# Altium schematic symbol library Integrated Circuits.SchLib: 156 symbols (part 2 of 3)
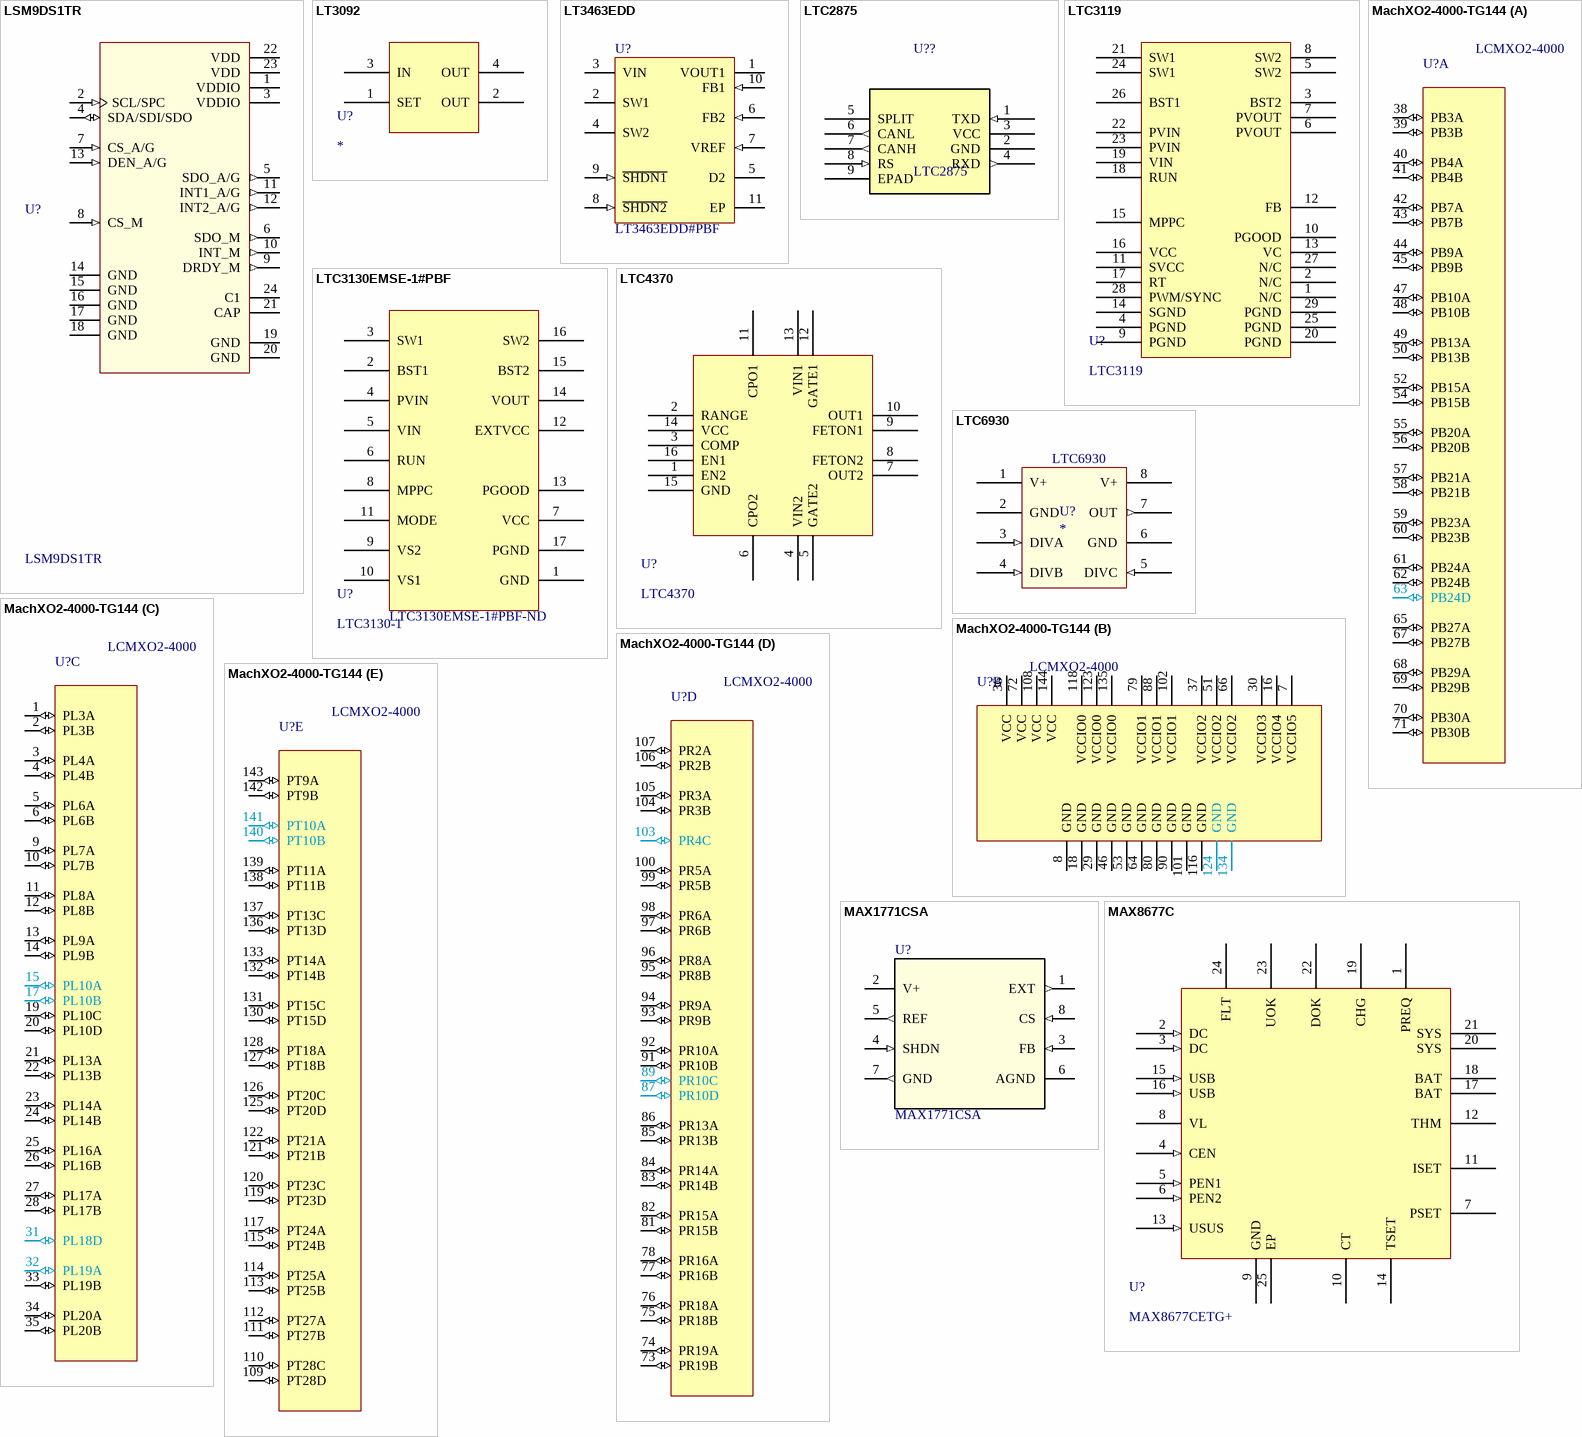
[diagram p16: symbols LSM9DS1TR to MAX8677C]

## MachXO2-4000-TG144
designator U?, comment LCMXO2-4000
MANF_PN: LCMXO2-4000HC-4TG144C; MANF: Lattice Semiconductor Corporation; VENDOR: DigiKey; VENDOR_PN: 220-1460-ND
footprint TQFP144 (LatticeMXO2 TQFP144)
part A pins: 38 PB3A (io), 39 PB3B (io), 40 PB4A (io), 41 PB4B (io), 42 PB7A (io), 43 PB7B (io), 44 PB9A (io), 45 PB9B (io), 47 PB10A (io), 48 PB10B (io), 49 PB13A (io), 50 PB13B (io), 52 PB15A (io), 54 PB15B (io), 55 PB20A (io), 56 PB20B (io), 57 PB21A (io), 58 PB21B (io), 59 PB23A (io), 60 PB23B (io), 61 PB24A (io), 62 PB24B (io), 63 PB24D (io), 65 PB27A (io), 67 PB27B (io), 68 PB29A (io), 69 PB29B (io), 70 PB30A (io), 71 PB30B (io)
part B pins: 7 VCCIO5 (power), 8 GND (power), 16 VCCIO4 (power), 18 GND (power), 29 GND (power), 30 VCCIO3 (power), 36 VCC (power), 37 VCCIO2 (power), 46 GND (power), 51 VCCIO2 (power), 53 GND (power), 64 GND (power), 66 VCCIO2 (power), 72 VCC (power), 79 VCCIO1 (power), 80 GND (power), 88 VCCIO1 (power), 90 GND (power), 101 GND (power), 102 VCCIO1 (power), 108 VCC (power), 116 GND (power), 118 VCCIO0 (power), 123 VCCIO0 (power), 124 GND (power), 134 GND (power), 135 VCCIO0 (power), 144 VCC (power)
part C pins: 1 PL3A (io), 2 PL3B (io), 3 PL4A (io), 4 PL4B (io), 5 PL6A (io), 6 PL6B (io), 9 PL7A (io), 10 PL7B (io), 11 PL8A (io), 12 PL8B (io), 13 PL9A (io), 14 PL9B (io), 15 PL10A (io), 17 PL10B (io), 19 PL10C (io), 20 PL10D (io), 21 PL13A (io), 22 PL13B (io), 23 PL14A (io), 24 PL14B (io), 25 PL16A (io), 26 PL16B (io), 27 PL17A (io), 28 PL17B (io), 31 PL18D (io), 32 PL19A (io), 33 PL19B (io), 34 PL20A (io), 35 PL20B (io)
part D pins: 73 PR19B (io), 74 PR19A (io), 75 PR18B (io), 76 PR18A (io), 77 PR16B (io), 78 PR16A (io), 81 PR15B (io), 82 PR15A (io), 83 PR14B (io), 84 PR14A (io), 85 PR13B (io), 86 PR13A (io), 87 PR10D (io), 89 PR10C (io), 91 PR10B (io), 92 PR10A (io), 93 PR9B (io), 94 PR9A (io), 95 PR8B (io), 96 PR8A (io), 97 PR6B (io), 98 PR6A (io), 99 PR5B (io), 100 PR5A (io), 103 PR4C (io), 104 PR3B (io), 105 PR3A (io), 106 PR2B (io), 107 PR2A (io)
part E pins: 109 PT28D (io), 110 PT28C (io), 111 PT27B (io), 112 PT27A (io), 113 PT25B (io), 114 PT25A (io), 115 PT24B (io), 117 PT24A (io), 119 PT23D (io), 120 PT23C (io), 121 PT21B (io), 122 PT21A (io), 125 PT20D (io), 126 PT20C (io), 127 PT18B (io), 128 PT18A (io), 130 PT15D (io), 131 PT15C (io), 132 PT14B (io), 133 PT14A (io), 136 PT13D (io), 137 PT13C (io), 138 PT11B (io), 139 PT11A (io), 140 PT10B (io), 141 PT10A (io), 142 PT9B (io), 143 PT9A (io)

## MAX1771CSA
designator U?
Boost, Buck-Boost Regulator Positive Output Step-Up, Step-Up/Step-Down - DC-DC Controller IC 8-SOIC; Supplier 1: Digi-Key; Supplier 2: Mouser; Supplier Part Number 1: MAX1771CSA+-ND; Supplier Part Number 2: 700-MAX1771CSA; Supplier Part Number 3: C407903; Supplier 3: LCSC
footprint SOIC-8N - MAX1771 (SOIC, 8-Leads, Body 4.90x3.90mm, Pitch 1.27mm, IPC Medium Density)
pins: 1 EXT (out), 2 V+ (power), 3 FB (in), 4 SHDN (in), 5 REF (out), 6 AGND (power), 7 GND (out), 8 CS (in)

## MAX8677C
designator U?, comment MAX8677CETG+
IC USB/AC ADP CHARGER 24-TQFN; Supplier 1: Digi-Key; Supplier Part Number 1: MAX8677CETG+-ND
footprint T2444-4 (QFN, 24-Leads, Body 4.00x4.00mm, Pitch 0.50mm, Thermal Pad 2.54x2.54mm, IPC Medium Density)
pins: 1 PREQ, 2 DC (in), 3 DC (in), 4 CEN (in), 5 PEN1 (in), 6 PEN2 (in), 7 PSET, 8 VL (power), 9 GND, 10 CT, 11 ISET, 12 THM, 13 USUS (in), 14 TSET, 15 USB (in), 16 USB (in), 17 BAT, 18 BAT, 19 CHG, 20 SYS, 21 SYS, 22 DOK, 23 UOK, 24 FLT, 25 EP

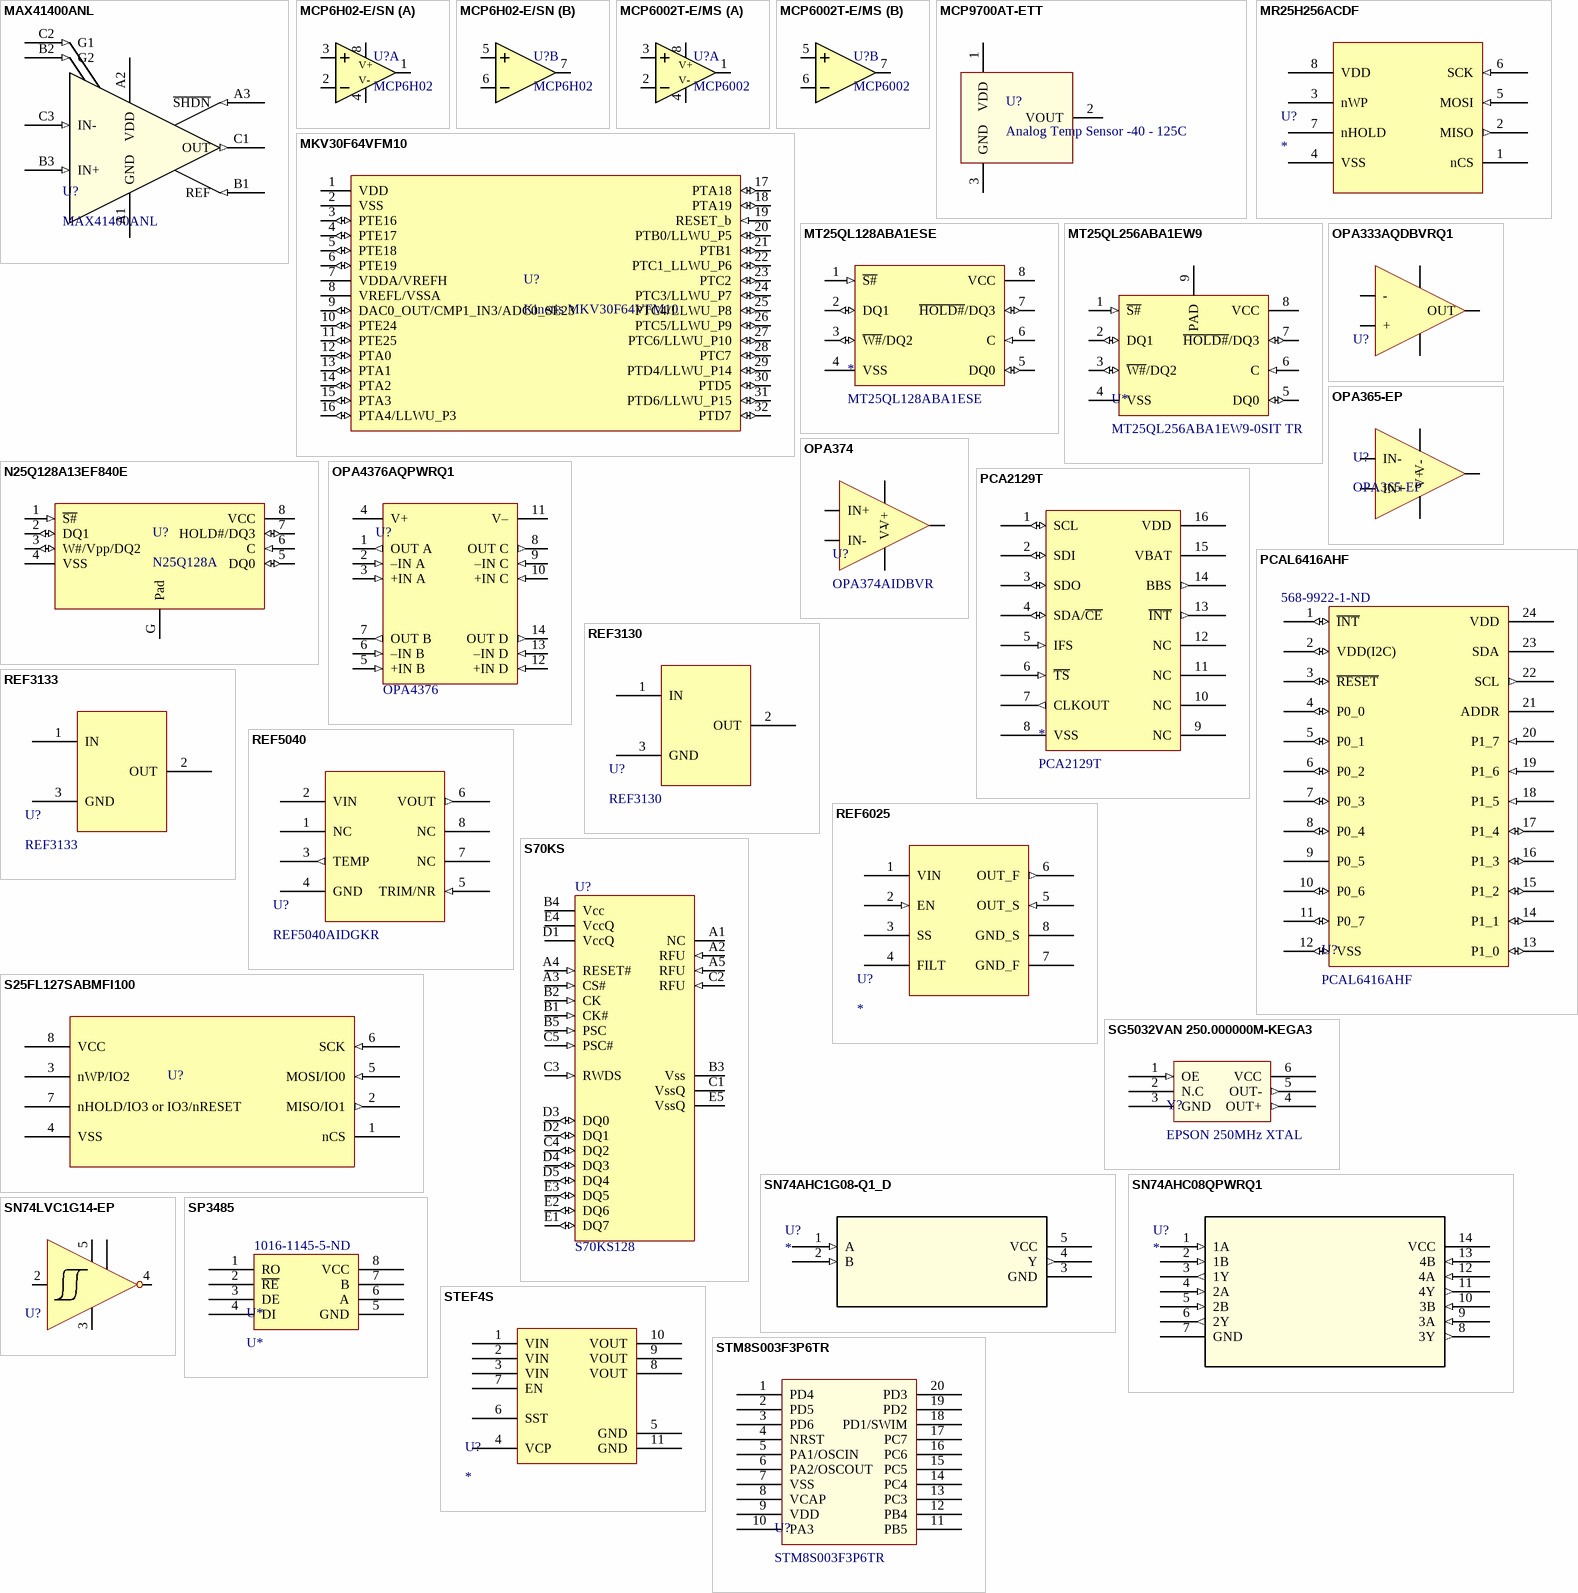
[diagram p7: symbols MAX41400ANL to STM8S003F3P6TR]

## MAX41400ANL
designator U?
Instrumentation Amplifier 1 Circuit Rail-to-Rail 9-WLP (1.26x1.23); Supplier 1: Digi-Key; Supplier 2: Mouser; Supplier Part Number 1: 175-MAX41400ANL+-ND; Supplier Part Number 2: 700-MAX41400ANL+
footprint WLP-9 BGA 0.4mm (9 PIN WLP BGA MAXIM41400ANL)
pins: A1 GND (power), A2 VDD (power), A3 ~{SHDN} (in), B1 REF (in), B2 G2 (in), B3 IN+ (in), C1 OUT (out), C2 G1 (in), C3 IN- (in)

## MCP6H02-E/SN
designator U?, comment MCP6H02
IC OPAMP DUAL 1.2MHZ RRO 8SOIC; Manufacturer: Microchip; Manufacturer Part Number: MCP6H02-E/SN; Supplier 1: Digi-Key; Supplier Part Number 1: MCP6H02-E/SN-ND
footprint SOIC127P600X175-8N (SOIC, 8-Leads, Body 4.90x3.90mm, Pitch 1.27mm, IPC Medium Density)
part A pins: 1 VOUTA, 2 VINA-, 3 VINA+, 4 VSS (power), 8 VDD (power)
part B pins: 5 VINB+, 6 VINB-, 7 VOUTB
part A text: V+; V-

## MCP6002T-E/MS
designator U?, comment MCP6002
IC OPAMP DUAL 1MHZ RRO 8MSOP; Manufacturer: Microchip; Manufacturer Part Number: MCP6002T-E/MS; Supplier 1: Digi-Key; Supplier Part Number 1: MCP6002T-E/MSCT-ND
part A pins: 1 VOUTA, 2 VINA-, 3 VINA+, 4 VSS (power), 8 VDD (power)
part B pins: 5 VINB+, 6 VINB-, 7 VOUTB
part A text: V+; V-

## MCP9700AT-ETT
designator U?, comment Analog Temp Sensor -40 - 125C
Temperature Sensor Analog, Local -40°C ~ 125°C 10mV/°C SOT-23-3; Supplier 1: Digi-Key; Supplier 2: Mouser; Supplier 3: LCSC; Supplier Part Number 1: MCP9700AT-E/TTCT-ND; Supplier Part Number 2: 579-MCP9700AT-E/TT; Supplier Part Number 3: C127949
footprint SOT23 (SOT23, 3-Leads, Body 2.92x2.37mm, Pitch 0.95mm, IPC Medium Density)
pins: 1 VDD, 2 VOUT, 3 GND

## MKV30F64VFM10
designator U?, comment Kinetis MKV30F64VFM10
MCU, ARM Cortex M4, 100MHz, 16 kB RAM, 64 kB Flash, I2C, SPI, 2 x UART, 2 x 16-bit 12ch ADC,  12-bit DAC; Manufacturer: Freescale; Manufacturer Part #: MKV30F64VFM10; Product Line: Kinetis; Core: ARM Cortex M4; Supplier 1: Digi-Key; Supplier Part Number 1: MKV30F64VFM10-ND
footprint QFN32-0.5MM-FREESCALE-DWG-98ARE10566D (QFN, 32-Leads, Body 5.00x5.00mm, Pitch 0.50mm, Thermal Pad 3.65x3.65mm, IPC Low Density)
pins: 1 VDD (power), 2 VSS (power), 3 PTE16 (io), 4 PTE17 (io), 5 PTE18 (io), 6 PTE19 (io), 7 VDDA/VREFH (power), 8 VREFL/VSSA (power), 9 DAC0_OUT/CMP1_IN3/ADC0_SE23 (io), 10 PTE24 (io), 11 PTE25 (io), 12 PTA0 (io), 13 PTA1 (io), 14 PTA2 (io), 15 PTA3 (io), 16 PTA4/LLWU_P3 (io), 17 PTA18 (io), 18 PTA19 (io), 19 RESET_b (in), 20 PTB0/LLWU_P5 (io), 21 PTB1 (io), 22 PTC1_LLWU_P6 (io), 23 PTC2 (io), 24 PTC3/LLWU_P7 (io), 25 PTC4/LLWU_P8 (io), 26 PTC5/LLWU_P9 (io), 27 PTC6/LLWU_P10 (io), 28 PTC7 (io), 29 PTD4/LLWU_P14 (io), 30 PTD5 (io), 31 PTD6/LLWU_P15 (io), 32 PTD7 (io)

## MR25H256ACDF
designator U?
IC RAM 256K SPI 40MHZ 8DFN; Manufacturer: Everspin; Manufacturer Part Number: MR25H256ACDF; Memory Type: Non-Volatile,RAM; Memory Size: 256Kb; Supplier 1: Digi-Key; Supplier Part Number 1: 819-1064-ND; Stock 1: 4283; Pricing 1: 1=5.06, 10=4.589, 25=4.4896, 50=4.4646, 100=4.0039, 250=3.989, 500=3.84208, 1000=3.65283 (USD); Mount: Surface Mount; Case/Package: DFN; Min Operating Temperature: -40°C; Max Operating Temperature: 85°C; Packaging: Tray; Frequency: 40MHz; ComponentLink1URL: https://www.everspin.com/file/156638/download?src-supplier=Digi-Key; ComponentLink1Description: https://www.everspin.com/file/156638/download?src-supplier=Digi-Key
footprint PSON127P600X90_HS-9N (PSON, 8-Leads, Body 5.00x6.00mm, Pitch 1.27mm, Thermal Pad 2.00x2.00mm, IPC Medium Density)
pins: 1 nCS (power), 2 MISO (out), 3 nWP, 4 VSS, 5 MOSI (in), 6 SCK (in), 7 nHOLD, 8 VDD

## MT25QL128ABA1ESE
designator *
SPI Flash, 128Mb, 3V; Supplier 1: Mouser; Supplier Part Number 1: 340-224871-TRAY
footprint SOP127P790X216-8N (SOP, 8-Leads, Body 5.29x5.29mm, Pitch 1.27mm, IPC Medium Density)
pins: 1 ~{S#} (in), 2 DQ1 (io), 3 ~{W#}/DQ2 (io), 4 VSS (power), 5 DQ0 (io), 6 C (in), 7 ~{HOLD#}/DQ3 (io), 8 VCC (power)

## MT25QL256ABA1EW9
designator U*, comment MT25QL256ABA1EW9-0SIT TR
IC FLASH 256M SPI 133MHZ 8WPDFN; Supplier 1: Digi-Key; Supplier Part Number 1: 557-1984-1-ND
footprint W-PDFN-8-127P800X600X80_HS-9N (QFN, 8-Leads, Body 8.00x6.00mm, Pitch 1.27mm, Thermal Pad 3.40x4.30mm, IPC Medium Density)
pins: 1 ~{S#} (in), 2 DQ1 (io), 3 ~{W#}/DQ2 (io), 4 VSS (power), 5 DQ0 (io), 6 C (in), 7 ~{HOLD#}/DQ3 (io), 8 VCC (power), 9 PAD

## N25Q128A13EF840E
designator U?, comment N25Q128A
SPI Flash, 128Mb, 3V; Supplier 1: Digi-Key; Supplier Part Number 1: 557-1561-ND
footprint Micron F8 MLP8 (QFN, 8-Leads, Body 8.00x6.00mm, Pitch 1.27mm, Thermal Pad 5.16x4.80mm, IPC High Density)
pins: 1 ~{S#} (in), 2 DQ1 (io), 3 W#/Vpp/DQ2 (io), 4 VSS (power), 5 DQ0 (io), 6 C (in), 7 HOLD#/DQ3 (io), 8 VCC (power), G Pad (power)

## OPA333AQDBVRQ1
designator U?, comment OPA333-Q1  (value not drawn)
IC OPAMP CHOPPER 350KHZ SOT23-5; Supplier 1: Digi-Key; Supplier Part Number 1: 296-36700-1-ND
footprint DBV0005A (SOT23, 5-Leads, Body 2.90x2.80mm, Pitch 0.95mm, IPC Medium Density)
pins: 1 OUT, 2 V-, 3 +, 4 -, 5 V+

## OPA365-EP
designator U?
IC OPAMP GP 50MHZ RRO SOT23-5; Supplier 1: Digi-Key; Supplier Part Number 1: 296-29461-1-ND
footprint DBV0005A (SOT23, 5-Leads, Body 2.90x2.80mm, Pitch 0.95mm, IPC Medium Density)
pins: 1 VOUT, 2 V-, 3 IN+, 4 IN-, 5 V+

## OPA374
designator U?, comment OPA374AIDBVR
General Purpose 1 2.3V ~ 5.5V, ±1.15V ~ 2.75V 585uA 6.5MHz 5 V/us SOT-23-5 Precision OpAmps RoHS; Supplier 1: Digi-Key; Supplier 2: Mouser; Supplier 3: LCSC; Supplier Part Number 1: 296-39129-1-ND; Supplier Part Number 2: 595-OPA374AIDBVR; Supplier Part Number 3: C111859
footprint DBV0005A (SOT23, 5-Leads, Body 2.90x2.80mm, Pitch 0.95mm, IPC Medium Density)
pins: 1 VOUT, 2 V-, 3 IN+, 4 IN-, 5 V+

## OPA4376AQPWRQ1
designator U?  Manufacturer Part No: OPA4376  (hidden comment: *)
OPAx376-Q1 Low-Noise, Low Quiescent Current, Precision Operational Amplifier 5.5MHZ, 5uV I/O OFFSET; Supplier 1: Digi-Key; Supplier Part Number 1: 296-46973-1-ND
footprint TSSOP-14 (R-PDSO-G14) (TSSOP, 14-Leads, Body 5.00x4.40mm, Pitch 0.65mm, IPC Medium Density)
pins: 1 OUT A (out), 2 –IN A (in), 3 +IN A (in), 4 V+, 5 +IN B (in), 6 –IN B (in), 7 OUT B (out), 8 OUT C (out), 9 –IN C (in), 10 +IN C (in), 11 V–, 12 +IN D (in), 13 –IN D (in), 14 OUT D (out)

## PCA2129T
designator *
IC RTC TEMP COMPENSATED W/ SPI; Supplier 1: Digi-Key; Supplier Part Number 1: 568-10183-1-ND
footprint SOP127P1030X265-16N (SOT, 16-Leads, Body 10.30x7.50mm, Pitch 1.27mm, IPC Medium Density)
footprint SOP127P1030X265-16N (SOT, 16-Leads, Body 10.30x7.50mm, Pitch 1.27mm, IPC Medium Density)
pins: 1 SCL (io), 2 SDI (io), 3 SDO (io), 4 SDA/~{CE} (io), 5 IFS (in), 6 ~{TS} (in), 7 CLKOUT (out), 8 VSS (power), 9 NC, 10 NC, 11 NC, 12 NC, 13 ~{INT} (out), 14 BBS (out), 15 VBAT (power), 16 VDD (power)

## PCAL6416AHF
designator U?  Supplier Part Number 1: 568-9922-1-ND
IC GPIO MUX 3.3V 24-WFQFN; Manufacturer Part Number: PCAL6416AHF; Supplier 1: Digi-Key
footprint TSOP65P640X110-24N (TSOP, 24-Leads, Body 7.80x4.40mm, Pitch 0.65mm, IPC Medium Density)
pins: 1 ~{INT} (io), 2 VDD(I2C) (io), 3 ~{RESET} (io), 4 P0_0 (io), 5 P0_1 (io), 6 P0_2 (io), 7 P0_3 (io), 8 P0_4 (io), 9 P0_5 "Ground", 10 P0_6 (io), 11 P0_7 (io), 12 VSS (io), 13 P1_0 (io), 14 P1_1 (io), 15 P1_2 (io), 16 P1_3 (io), 17 P1_4 (io), 18 P1_5 (in) "Address Input", 19 P1_6 (in), 20 P1_7 (in), 21 ADDR (power) "Supply voltage of PCAL6416A for Port P", 22 SCL (out), 23 SDA (power) "Supply voltage of I2C-bus. Connect directly to the VDD  of the external I2C master. Provides voltage-level  translation.", 24 VDD

## REF3130
designator U?
IC VREF SERIES 3V SOT23-3; Manufacturer Part Number: REF3130AIDBZR; Supplier 1: Digi-Key; Supplier Part Number 1: 296-39160-1-ND
footprint DBZ0003A (SOT23, 3-Leads, Body 2.92x2.37mm, Pitch 0.95mm, IPC Medium Density)
pins: 1 IN, 2 OUT, 3 GND

## REF3133
designator U?
IC VREF SERIES 3.3V SOT23-3; Manufacturer Part Number: REF3133AQDBZRQ1; Supplier 1: Digi-Key; Supplier Part Number 1: 296-46910-1-ND
footprint DBZ0003A (SOT23, 3-Leads, Body 2.92x2.37mm, Pitch 0.95mm, IPC Medium Density)
pins: 1 IN, 2 OUT, 3 GND

## REF5040
designator U?, comment REF5040AIDGKR
IC VREF SERIES 4.096V 8VSSOP; Supplier 1: Digi-Key; Supplier Part Number 1: 296-49255-1-ND
footprint DGK (S-PDSO-G8) (TSOP, 8-Leads, Body 3.00x3.00mm, Pitch 0.65mm, IPC Medium Density)
pins: 1 NC, 2 VIN (power), 3 TEMP (out), 4 GND, 5 TRIM/NR (in), 6 VOUT (out), 7 NC, 8 NC

## REF6025
designator U?
IC VREF SERIES 2.5V 8VSSOP; Supplier 1: Digi-Key; Supplier Part Number 1: 296-44916-1-ND
footprint DGK (S-PDSO-G8) (TSOP, 8-Leads, Body 3.00x3.00mm, Pitch 0.65mm, IPC Medium Density)
pins: 1 VIN (power), 2 EN (in), 3 SS, 4 FILT, 5 OUT_S (in), 6 OUT_F (out), 7 GND_F, 8 GND_S

## S25FL127SABMFI100
designator U?
Flash Memory 128Mb, 3V, 108Mhz SPI NOR Flash; Manufacturer: Cypress; Manufacturer Part Number: S25FL127SABMFI100; Memory Type: FLASH,NOR; Interface: SPI,Serial; Max Supply Voltage: 3.6V; Access Time: 8ns; Min Supply Voltage: 2.7V; Address Bus Width: 1b; Supplier 1: Digi-Key; Supplier Part Number 1: 428-3976-ND; Stock 1: 8932; Pricing 1: 1=2.75, 10=2.473, 25=2.4336, 50=2.4272, 100=2.1688, 250=2.09832, 500=2.09048, 1000=1.94694, 5000=1.82689 (USD); Mount: Surface Mount; Case/Package: SOIC; Number of Pins: 8; Contact Plating: Tin; Min Operating Temperature: -40°C; Max Operating Temperature: 85°C; Packaging: Tray; Density: 128Mb; Frequency: 108MHz
footprint SOIC127P800X216-8N (SOIC, 8-Leads, Body 5.28x5.28mm, Pitch 1.27mm, IPC Medium Density)
pins: 1 nCS (power), 2 MISO/IO1 (out), 3 nWP/IO2, 4 VSS, 5 MOSI/IO0 (in), 6 SCK (in), 7 nHOLD/IO3 or IO3/nRESET, 8 VCC

## S70KS
designator U?, comment S70KS128
PSRAM (Pseudo SRAM) Memory IC 128Mb (16M x 8) Parallel 166MHz 36ns 24-FBGA (6x8); VENDOR: DigiKey; VENDOR_PN: 2015-S70KS1281DPBHV020-ND; MANF: Cypress; MANF_PN: S70KS1281DPBHV020; Supplier 1: Digi-Key; Supplier Part Number 1: 2015-S70KS1281DPBHV020-ND
footprint Cypress-VAA024
pins: A1 NC, A2 RFU (in), A3 CS# (in), A4 RESET# (in), A5 RFU (in), B1 CK# (in), B2 CK (in), B3 Vss (power), B4 Vcc (power), B5 PSC (in), C1 VssQ (power), C2 RFU (in), C3 RWDS (in), C4 DQ2 (io), C5 PSC# (in), D1 VccQ (power), D2 DQ1 (io), D3 DQ0 (io), D4 DQ3 (io), D5 DQ4 (io), E1 DQ7 (io), E2 DQ6 (io), E3 DQ5 (io), E4 VccQ (power), E5 VssQ (power)

## SG5032VAN 250.000000M-KEGA3
designator Y?, comment EPSON 250MHz XTAL
250MHz XO (Standard) LVDS Oscillator 2.5V ~ 3.3V Enable/Disable 6-SMD, No Lead; MFN_PN: SG5032VAN 250.000000M-KEGA3; Supplier 1: Digi-Key; Supplier 2: Mouser; MFN: EPSON; Supplier Part Number 1: SER3984CT-ND; Supplier Part Number 2: 732-5032V250.00KEGA3
footprint EPSON SG5032 (EPSON SG5032 XTAL)
pins: 1 OE (in), 2 N.C, 3 GND, 4 OUT+ (out), 5 OUT- (out), 6 VCC

## SN74AHC1G08-Q1_D
designator U?
AND gate, single channel.; Manufacturer: Texas Instruments; GENERIC_PART_NUMBER: SN74AHC1G08-Q1; Manufacturer_Part_Number: sn74ahc1g08-q1_dbv_5; INDUSTRY_STD_PKG_TYPE: SOT-23; FAMILY_NAME: LL AND GATE; PIN_COUNT: 5; PACKAGE_DESIGNATOR: DBV; Datasheet_URL: http://www.ti.com/lit/gpn/SN74AHC1G08-Q1; Vendor: Texas Instruments; Value: Value; Type: Type; RefDes: RefDes
footprint DBV0005A (SOT23, 5-Leads, Body 2.90x2.80mm, Pitch 0.95mm, IPC Medium Density)
pins: 1 A (in), 2 B (in), 3 GND (power), 4 Y (out), 5 VCC (power)

## SN74AHC08QPWRQ1
designator U?
Quad input AND gate; Manufacturer: Texas Instruments; Manufacturer_Part_Number: SN74AHC08QPWRQ1; Built_By: EMA_UL_Team; C: Copyright (C) 2015 Accelerated Designs. All rights reserved; Vendor: Texas Instruments; RefDes: RefDes; Type: DEV; Value: Value
footprint PW14
pins: 1 1A (in), 2 1B (in), 3 1Y (out), 4 2A (in), 5 2B (in), 6 2Y (out), 7 GND (power), 8 3Y (out), 9 3A (in), 10 3B (in), 11 4Y (out), 12 4A (in), 13 4B (in), 14 VCC (power)

## SN74LVC1G14-EP
designator U?  (value not drawn)
IC SNGL SCHMITT-TRIG INV SOT23-5; Supplier 1: Digi-Key; Supplier Part Number 1: 296-22346-1-ND
footprint DBV0005A (SOT23, 5-Leads, Body 2.90x2.80mm, Pitch 0.95mm, IPC Medium Density)
pins: 1, 2 A, 3 GND, 4 Y, 5 VCC

## SP3485
designator U*, comment U*  Supplier Part Number 1: 1016-1145-5-ND
IC TXRX RS485 HALF DUPLEX 8SOIC; Supplier 1: Digi-Key
footprint SOIC127P600X175-8N (SOIC, 8-Leads, Body 4.90x3.90mm, Pitch 1.27mm, IPC Medium Density)
pins: 1 RO, 2 ~{RE}, 3 DE, 4 DI, 5 GND, 6 A, 7 B, 8 VCC

## STEF4S
designator U?
IC ELECTRONIC FUSE 10VFDFPN
footprint SON50P300X80_HS-11N (SON, 10-Leads, Body 3.00x3.00mm, Pitch 0.50mm, Thermal Pad 2.36x1.58mm, IPC Medium Density)
pins: 1 VIN, 2 VIN, 3 VIN, 4 VCP, 5 GND, 6 SST, 7 EN, 8 VOUT, 9 VOUT, 10 VOUT, 11 GND

## STM8S003F3P6TR
designator U?
STM8 STM8S Microcontroller IC 8-Bit 16MHz 8KB (8K x 8) FLASH 20-TSSOP; Supplier 1: Digi-Key; Supplier 2: Mouser; Supplier 3: LCSC; Supplier Part Number 1: 497-18051-1-ND; Supplier Part Number 2: 511-STM8S003F3P6TR; Supplier Part Number 3: C52717
footprint TSOP65P640X120-20N (TSOP, 20-Leads, Body 6.50x4.40mm, Pitch 0.65mm, IPC Medium Density)
pins: 1 PD4, 2 PD5, 3 PD6, 4 NRST, 5 PA1/OSCIN, 6 PA2/OSCOUT, 7 VSS, 8 VCAP, 9 VDD, 10 PA3, 11 PB5, 12 PB4, 13 PC3, 14 PC4, 15 PC5, 16 PC6, 17 PC7, 18 PD1/SWIM, 19 PD2, 20 PD3

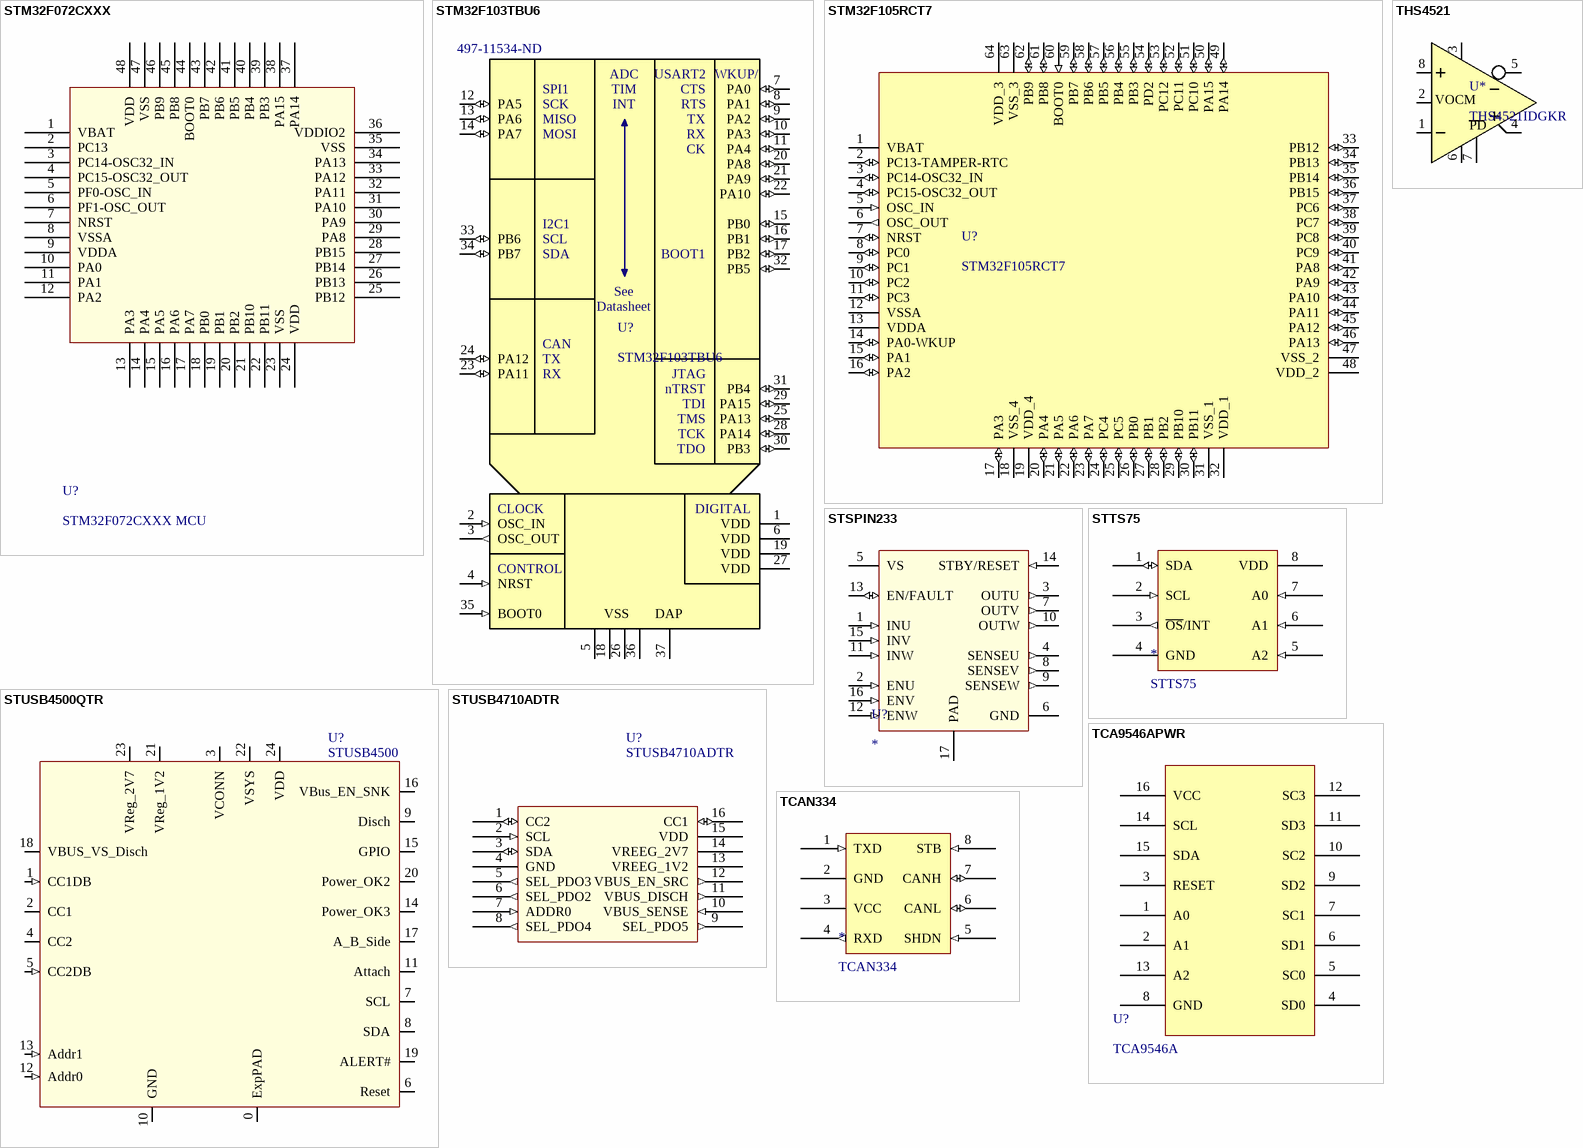
[diagram p8: symbols STM32F072CXXX to THS4521]

## STM32F072CXXX
designator U?, comment STM32F072CXXX MCU
32-Bit FLASH ARM® Cortex®-M0 48MHz 1.65V ~ 3.6V LQFP-48_7x7x05P ST Microelectronics RoHS; Supplier 1: Digi-Key; Supplier 2: Mouser; Supplier 3: LCSC; Supplier Part Number 1: 497-18747-1-ND; Supplier Part Number 2: 511-STM32F072CBT6TR; Supplier Part Number 3: C81720
footprint LQFP48 (TSQFP, 48-Leads, Body 7.00x8.00mm, Pitch 0.50mm, IPC Medium Density)
pins: 1 VBAT, 2 PC13, 3 PC14-OSC32_IN, 4 PC15-OSC32_OUT, 5 PF0-OSC_IN, 6 PF1-OSC_OUT, 7 NRST, 8 VSSA, 9 VDDA, 10 PA0, 11 PA1, 12 PA2, 13 PA3, 14 PA4, 15 PA5, 16 PA6, 17 PA7, 18 PB0, 19 PB1, 20 PB2, 21 PB10, 22 PB11, 23 VSS, 24 VDD, 25 PB12, 26 PB13, 27 PB14, 28 PB15, 29 PA8, 30 PA9, 31 PA10, 32 PA11, 33 PA12, 34 PA13, 35 VSS, 36 VDDIO2, 37 PA14, 38 PA15, 39 PB3, 40 PB4, 41 PB5, 42 PB6, 43 PB7, 44 BOOT0, 45 PB8, 46 PB9, 47 VSS, 48 VDD

## STM32F103TBU6
designator U?  Supplier Part Number 1: 497-11534-ND
ARM Cortex M3, 128kB Flash, 20k RAM, CAN, PWM; Manufacturer: STMicroelectronics; Last Edited By: Russell Burge; Last Edited On: 3/10/2016; Manufacturer Part Number: STM32F103TBU6; Supplier: Digikey; Supplier Part Number: 497-11534-ND; Supplier 1: Digi-Key
footprint QFN36 (QFN, 36-Leads, Body 6.00x6.00mm, Pitch 0.50mm, Thermal Pad 3.00x3.00mm, IPC Medium Density)
pins: 1 VDD, 2 OSC_IN (in), 3 OSC_OUT (out), 4 NRST (in), 5 VSS, 6 VDD, 7 PA0 (io), 8 PA1 (io), 9 PA2 (io), 10 PA3 (io), 11 PA4 (io), 12 PA5 (io), 13 PA6 (io), 14 PA7 (io), 15 PB0 (io), 16 PB1 (io), 17 PB2 (io), 18 VSS, 19 VDD, 20 PA8 (io), 21 PA9 (io), 22 PA10 (io), 23 PA11 (io), 24 PA12 (io), 25 PA13 (io), 26 VSS, 27 VDD, 28 PA14 (io), 29 PA15 (io), 30 PB3 (io), 31 PB4 (io), 32 PB5 (io), 33 PB6 (io), 34 PB7 (io), 35 BOOT0 (in), 36 VSS, 37 DAP
text: ADC; USART2; WKUP/; SPI1; TIM; CTS; SCK; INT; RTS; MISO; TX; MOSI; RX; CK; I2C1; SCL; SDA; BOOT1; See; Datasheet; CAN; JTAG; nTRST; TDI; TMS; TCK; TDO; CLOCK; DIGITAL; CONTROL

## STM32F105RCT7
designator U?
ARM Cortex M3, 256kB Flash, 64k RAM, CAN, PWM, USB, Ethernet; Manufacturer: STMicroelectronics; Last Edited By: Peter Kazakoff; Last Edited On: 2017-02-26; Manufacturer Part Number: STM32F105RCT7; Supplier: Digikey; Supplier Part Number: 497-11547-ND; Supplier 1: Digi-Key; Supplier Part Number 1: 497-11547-ND
footprint ST-LQFP64 (TSQFP, 64-Leads, Body 10.00x10.00mm, Pitch 0.50mm, IPC Medium Density)
pins: 1 VBAT (power), 2 PC13-TAMPER-RTC (io), 3 PC14-OSC32_IN (io), 4 PC15-OSC32_OUT (io), 5 OSC_IN (in), 6 OSC_OUT (out), 7 NRST (io), 8 PC0 (io), 9 PC1 (io), 10 PC2 (io), 11 PC3 (io), 12 VSSA (power), 13 VDDA (power), 14 PA0-WKUP (io), 15 PA1 (io), 16 PA2 (io), 17 PA3 (io), 18 VSS_4 (power), 19 VDD_4 (power), 20 PA4 (io), 21 PA5 (io), 22 PA6 (io), 23 PA7 (io), 24 PC4 (io), 25 PC5 (io), 26 PB0 (io), 27 PB1 (io), 28 PB2 (io), 29 PB10 (io), 30 PB11 (io), 31 VSS_1 (power), 32 VDD_1 (power), 33 PB12 (io), 34 PB13 (io), 35 PB14 (io), 36 PB15 (io), 37 PC6 (io), 38 PC7 (io), 39 PC8 (io), 40 PC9 (io), 41 PA8 (io), 42 PA9 (io), 43 PA10 (io), 44 PA11 (io), 45 PA12 (io), 46 PA13 (io), 47 VSS_2 (power), 48 VDD_2 (power), 49 PA14 (io), 50 PA15 (io), 51 PC10 (io), 52 PC11 (io), 53 PC12 (io), 54 PD2 (io), 55 PB3 (io), 56 PB4 (io), 57 PB5 (io), 58 PB6 (io), 59 PB7 (io), 60 BOOT0 (in), 61 PB8 (io), 62 PB9 (io), 63 VSS_3 (power), 64 VDD_3 (power)

## STSPIN233
designator U?
Three phase half-bridge driver, 1.8-10V, 1.3Arms; Supplier 1: Digi-Key; Supplier Part Number 1: 497-17787-1-ND
footprint VFPQFN 16 3x3x1 (STSPIN233)
pins: 1 INU (in), 2 ENU (in), 3 OUTU (out), 4 SENSEU (out), 5 VS (power), 6 GND (power), 7 OUTV (out), 8 SENSEV (out), 9 SENSEW (out), 10 OUTW (out), 11 INW (in), 12 ENW (in), 13 EN/FAULT (io), 14 STBY/RESET (in), 15 INV (in), 16 ENV (in), 17 PAD (power)

## STTS75
designator *
12-bit or 9-bit I2C TEMP SENSOR; Supplier 1: Digi-Key; Supplier Part Number 1: 497-6331-1-ND
footprint TSOP65P490X110-8N (TSSOP8 (MSOP8), 8-Leads, Body 3.00x2.95mm, Pitch 0.65mm, IPC Medium Density)
pins: 1 SDA (io), 2 SCL (in), 3 ~{OS}/INT (out), 4 GND (power), 5 A2 (in), 6 A1 (in), 7 A0 (in), 8 VDD (power)

## STUSB4500QTR
designator U?, comment STUSB4500
Standalone USB PD controller  with SINK auto-run mode in QFN24 4x4mm; Manufacturer: STMicroelectronics; Manufacturer’s ordering code: STUSB4500QTR; Part Number: Standalone USB PD controller  with SINK auto-run mode in QFN24 4x4mm; Value: STUSB4500; Supplier 1: Digi-Key; Supplier 2: Mouser; Supplier Part Number 1: 497-18060-1-ND; Supplier Part Number 2: 511-STUSB4500QTR
footprint QFN24 - 4X4MM - PITCH 0.5MM - EXPOSEDPAD (QFN24 - 4X4mm - pitch 0.5mm - ExposedPAD)
pins: 0 ExpPAD, 1 CC1DB (in), 2 CC1 (io), 3 VCONN, 4 CC2 (io), 5 CC2DB (in), 6 Reset, 7 SCL, 8 SDA, 9 Disch (oc), 10 GND, 11 Attach (oc), 12 Addr0 (in), 13 Addr1 (in), 14 Power_OK3 (oc), 15 GPIO (oc), 16 VBus_EN_SNK (oc), 17 A_B_Side (oc), 18 VBUS_VS_Disch, 19 ALERT# (oc), 20 Power_OK2 (oc), 21 VReg_1V2, 22 VSYS, 23 VReg_2V7, 24 VDD

## STUSB4710ADTR
designator U?
Standalone USB PD controller  with Source in 16-SO package; Part Number: Standalone USB PD controller  with SINK auto-run mode in QFN24 4x4mm; Manufacturer: STMicroelectronics; Manufacturer’s ordering code: STUSB4500QTR; Value: STUSB4500; Supplier 1: Digi-Key; Supplier 2: Mouser; Supplier Part Number 1: 497-18020-1-ND; Supplier Part Number 2: 511-STUSB4710ADTR
footprint SO-16 (STUSB4710 SOIC, 16-Leads, Body 9.90x3.95mm, Pitch 1.27mm, IPC Medium Density)
pins: 1 CC2 (io), 2 SCL (in), 3 SDA (io), 4 GND (power), 5 SEL_PDO3 (out), 6 SEL_PDO2 (out), 7 ADDR0 (in), 8 SEL_PDO4 (out), 9 SEL_PDO5 (out), 10 VBUS_SENSE (in), 11 VBUS_DISCH (out), 12 VBUS_EN_SRC (out), 13 VREEG_1V2 (power), 14 VREEG_2V7 (power), 15 VDD (power), 16 CC1 (io)

## TCA9546APWR
designator U?, comment TCA9546A
IC I2C SW 4CH W/RESET 16TSSOP; Supplier 1: Digi-Key; Supplier Part Number 1: 296-40578-1-ND
footprint PW (R-PDSO-G16)
pins: 1 A0, 2 A1, 3 RESET, 4 SD0, 5 SC0, 6 SD1, 7 SC1, 8 GND, 9 SD2, 10 SC2, 11 SD3, 12 SC3, 13 A2, 14 SCL, 15 SDA, 16 VCC

## TCAN334
designator *
3V3 CAN Transceiver, 1MHz; Supplier 1: Digi-Key; Supplier Part Number 1: 296-44503-1-ND
footprint SOIC127P600X175-8N (SOIC, 8-Leads, Body 4.90x3.90mm, Pitch 1.27mm, IPC Medium Density)
pins: 1 TXD (in), 2 GND (power), 3 VCC (power), 4 RXD (out), 5 SHDN (in), 6 CANL (io), 7 CANH (io), 8 STB (in)

## THS4521
designator U*, comment THS4521IDGKR
IC OPAMP DIFF 95MHZ RRO 8VSSOP; Supplier 1: Digi-Key
pins: 1 VIN-, 2 VOCM, 3 VS+, 4 VO+, 5 VO-, 6 VS-, 7 ~{PD}, 8 VIN+
text: PD

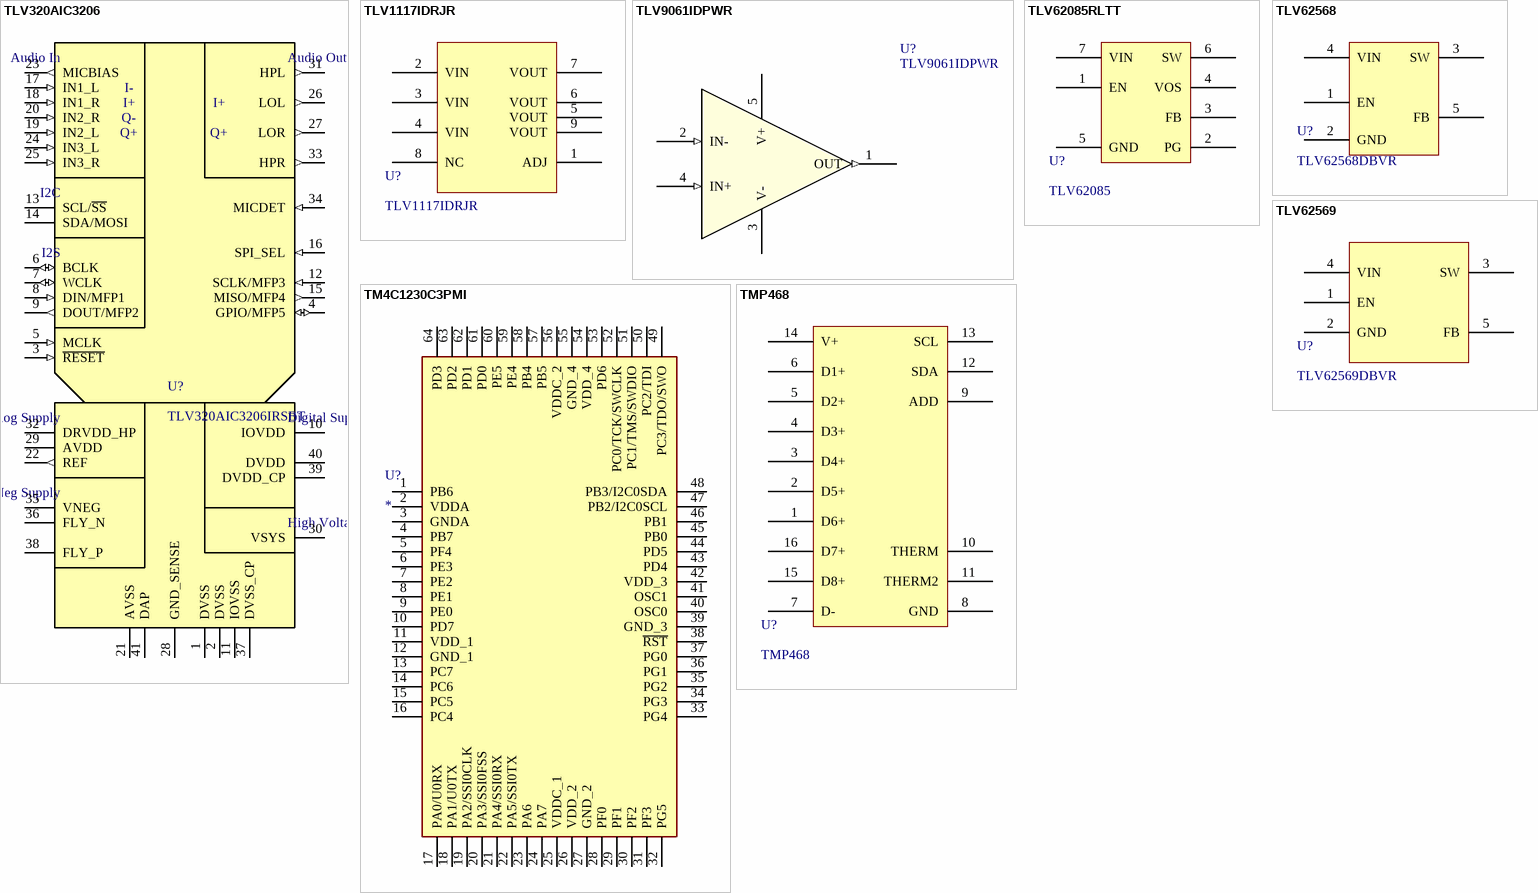
[diagram p9: symbols TLV320AIC3206 to TMP468]

## TLV320AIC3206
designator U?, comment TLV320AIC3206IRSBT
IC STEREO AUD CODEC LP 40WQFN; Supplier 1: Digi-Key; Supplier Part Number 1: 296-28199-1-ND
pins: 1 DVSS, 2 DVSS, 3 ~{RESET} (in), 4 GPIO/MFP5 (io), 5 MCLK (in), 6 BCLK (io), 7 WCLK (io), 8 DIN/MFP1 (in), 9 DOUT/MFP2 (out), 10 IOVDD (power), 11 IOVSS, 12 SCLK/MFP3 (in), 13 SCL/~{SS}, 14 SDA/MOSI, 15 MISO/MFP4 (out), 16 SPI_SEL (in), 17 IN1_L (in), 18 IN1_R (in), 19 IN2_L (in), 20 IN2_R (in), 21 AVSS, 22 REF (out), 23 MICBIAS (out), 24 IN3_L (in), 25 IN3_R (in), 26 LOL (out), 27 LOR (out), 28 GND_SENSE, 29 AVDD (power), 30 VSYS (power), 31 HPL (out), 32 DRVDD_HP (power), 33 HPR (out), 34 MICDET (in), 35 VNEG (power), 36 FLY_N (power), 37 DVSS_CP (power), 38 FLY_P (power), 39 DVDD_CP (power), 40 DVDD (power), 41 DAP (power)
text: Audio In; Audio Out; I-; I+; Q-; Q+; I2C; I2S; Analog Supply; Digital Supply; Neg Supply; High Voltage

## TLV1117IDRJR
designator U?
IC REG LIN POS ADJ 800MA 8SON; Supplier 1: Digi-Key; Supplier Part Number 1: 296-19517-1-ND
footprint DRJ (S-PWSON-N8) (SON, 8-Leads, Body 4.00x4.00mm, Pitch 0.80mm, Thermal Pad 3.00x2.20mm, IPC Medium Density)
pins: 1 ADJ, 2 VIN, 3 VIN, 4 VIN, 5 VOUT, 6 VOUT, 7 VOUT, 8 NC, 9 VOUT

## TLV9061IDPWR
designator U?
CMOS Amplifier 1 Circuit Rail-to-Rail 5-X2SON (0.80x0.80); Supplier 1: Digi-Key; Supplier 2: Mouser; Supplier Part Number 1: 296-49053-1-ND; Supplier Part Number 2: 595-TLV9061IDPWR
footprint X2SON-5 (X2SON-5Pin 0.8x0.8mm TLV9061)
footprint X2SON-5 - ULTRA - DENSE (X2SON-5Pin 0.8x0.8mm TLV9061)
pins: 1 OUT (out), 2 IN- (in), 3 V- (power), 4 IN+ (in), 5 V+ (power)

## TLV62085RLTT
designator U?, comment TLV62085
IC REG BUCK ADJ 3A 7VSON; Supplier 1: Digi-Key; Supplier Part Number 1: 296-46220-1-ND
footprint RLT0007A (VSON)
pins: 1 EN, 2 PG, 3 FB, 4 VOS, 5 GND, 6 SW, 7 VIN

## TLV62568
designator U?, comment TLV62568DBVR
IC REG BUCK ADJ 1A SOT23-5; Supplier 1: Digi-Key; Supplier Part Number 1: 296-47359-1-ND
footprint DBV0005A (SOT23, 5-Leads, Body 2.90x2.80mm, Pitch 0.95mm, IPC Medium Density)
pins: 1 EN, 2 GND, 3 SW, 4 VIN, 5 FB

## TLV62569
designator U?, comment TLV62569DBVR
IC REG BUCK ADJ 2A SOT23-5; Supplier 1: Digi-Key; Supplier Part Number 1: 296-47360-1-ND
footprint DBV0005A (SOT23, 5-Leads, Body 2.90x2.80mm, Pitch 0.95mm, IPC Medium Density)
pins: 1 EN, 2 GND, 3 SW, 4 VIN, 5 FB

## TM4C1230C3PMI
designator U?
ARM® Cortex®-M4F series Microcontroller IC 32-Bit 80MHz 32KB (32K x 8) FLASH 64-LQFP (10x10); Manufacturer_Name: Texas Instruments; Manufacturer_Part_Number: TM4C1230C3PMI; Datasheet Link: http://www.ti.com/lit/gpn/TM4C1230C3PM; Height: 1.6mm; Mouser Part Number: 595-TM4C1230C3PMI; Mouser Price/Stock: https://www.mouser.com/Search/Refine.aspx?Keyword=595-TM4C1230C3PMI; Arrow Part Number: TM4C1230C3PMI; Arrow Price/Stock: https://www.arrow.com/en/products/tm4c1230c3pmi/texas-instruments
footprint TSQFP50P1200X1200X160-64N (TSQFP, 64-Leads, Body 10.00x10.00mm, Pitch 0.50mm, IPC Medium Density)
pins: 1 PB6, 2 VDDA, 3 GNDA, 4 PB7, 5 PF4, 6 PE3, 7 PE2, 8 PE1, 9 PE0, 10 PD7, 11 VDD_1, 12 GND_1, 13 PC7, 14 PC6, 15 PC5, 16 PC4, 17 PA0/U0RX, 18 PA1/U0TX, 19 PA2/SSI0CLK, 20 PA3/SSI0FSS, 21 PA4/SSI0RX, 22 PA5/SSI0TX, 23 PA6, 24 PA7, 25 VDDC_1, 26 VDD_2, 27 GND_2, 28 PF0, 29 PF1, 30 PF2, 31 PF3, 32 PG5, 33 PG4, 34 PG3, 35 PG2, 36 PG1, 37 PG0, 38 ~{RST}, 39 GND_3, 40 OSC0, 41 OSC1, 42 VDD_3, 43 PD4, 44 PD5, 45 PB0, 46 PB1, 47 PB2/I2C0SCL, 48 PB3/I2C0SDA, 49 PC3/TDO/SWO, 50 PC2/TDI, 51 PC1/TMS/SWDIO, 52 PC0/TCK/SWCLK, 53 PD6, 54 VDD_4, 55 GND_4, 56 VDDC_2, 57 PB5, 58 PB4, 59 PE4, 60 PE5, 61 PD0, 62 PD1, 63 PD2, 64 PD3

## TMP468
designator U?
NOT ON DIGIKEY YET; Operating Temperature: -40°C ~ 125°C
footprint RGT0016C (QFN, 16-Leads, Body 3.00x3.00mm, Pitch 0.50mm, Thermal Pad 1.68x1.68mm, IPC High Density)
pins: 1 D6+, 2 D5+, 3 D4+, 4 D3+, 5 D2+, 6 D1+, 7 D-, 8 GND, 9 ADD, 10 THERM, 11 THERM2, 12 SDA, 13 SCL, 14 V+, 15 D8+, 16 D7+

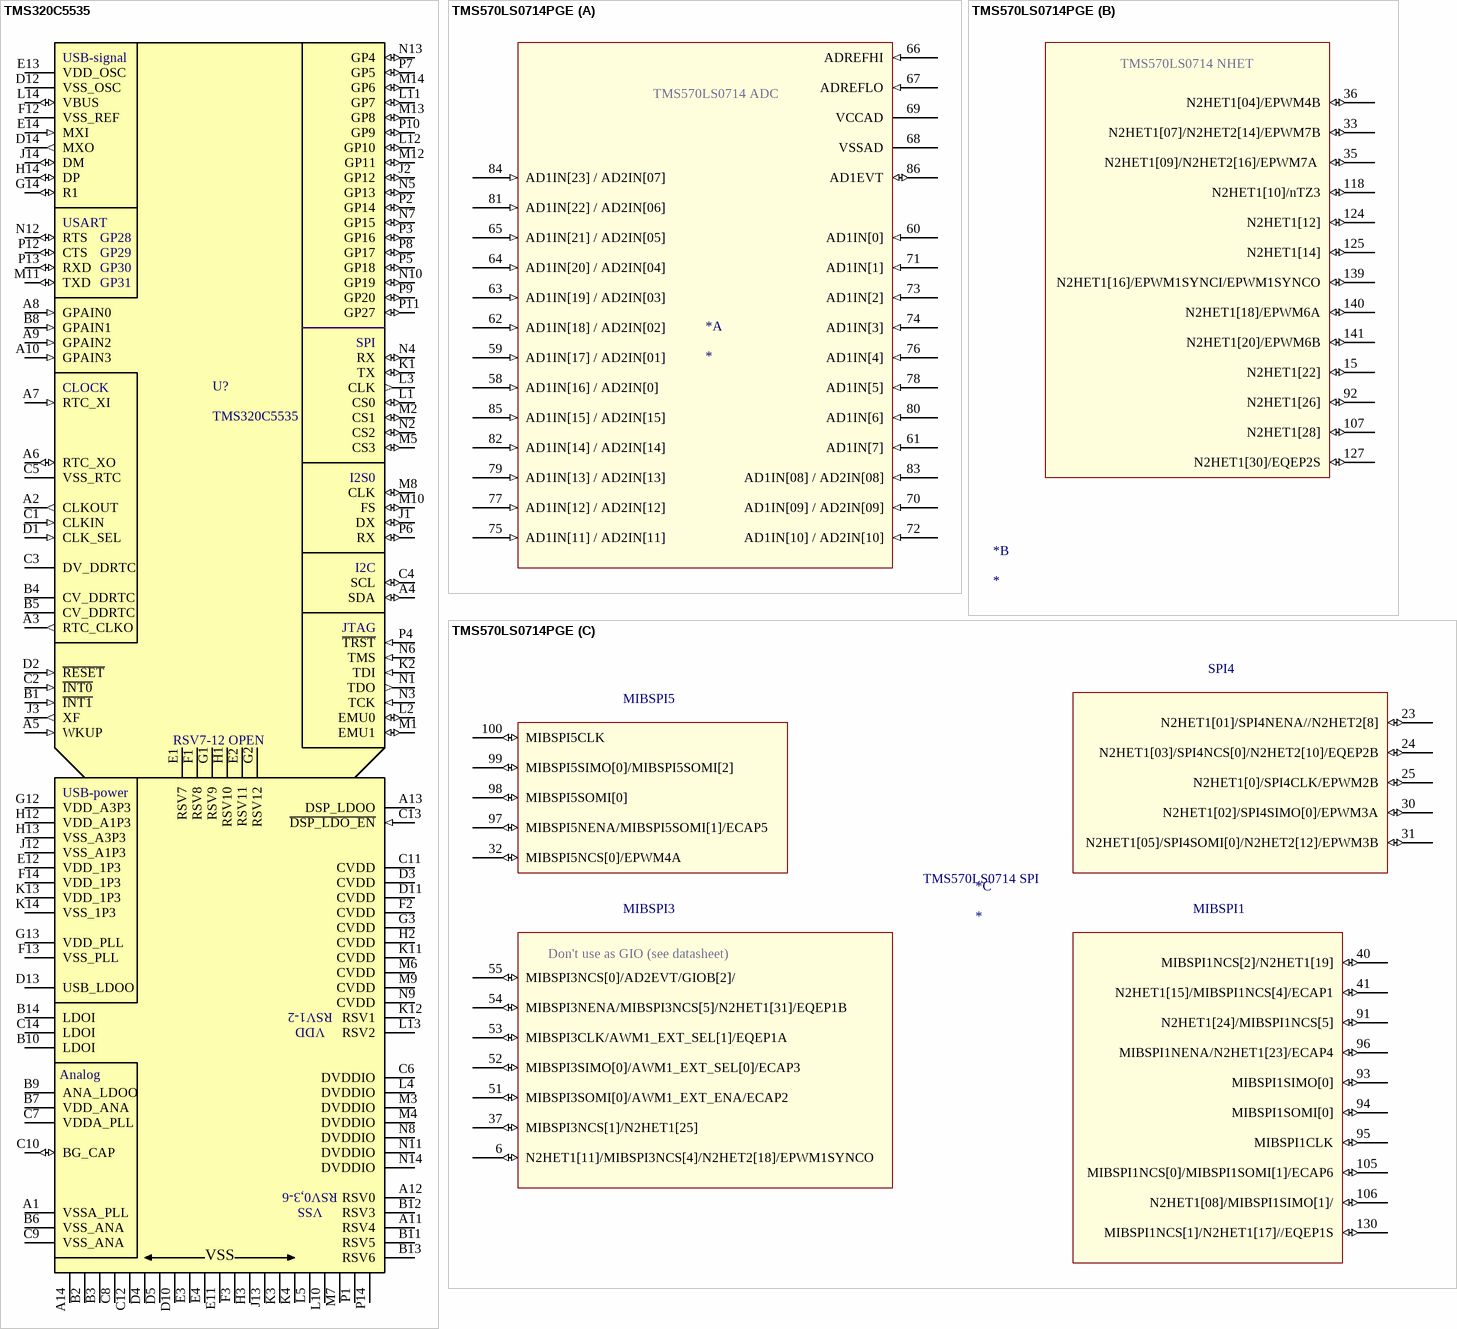
[diagram p10: symbols TMS320C5535 to TMS570LS0714PGE]

## TMS320C5535
designator U?
IC DSP FIXED-POINT 144BGA; Manufacturer: Texas Instruments; Manufacturer Part Number: TMS320C5535AZHHA10; Last Edited By: Russell Burge; Last Edited On: 3/12/2016; Supplier: Digikey; Supplier Part Number: 296-29562-ND; Supplier 1: Digi-Key; Supplier Part Number 1: 296-29562-ND
pins: A1 VSSA_PLL, A2 CLKOUT (out), A3 RTC_CLKO (out), A4 SDA (io), A5 WKUP (in), A6 RTC_XO (io), A7 RTC_XI (in), A8 GPAIN0 (in), A9 GPAIN2 (in), A10 GPAIN3 (in), A11 RSV4, A12 RSV0, A13 DSP_LDOO, A14 VSS, B1 ~{INT1} (in), B2 VSS, B3 VSS, B4 CV_DDRTC, B5 CV_DDRTC, B6 VSS_ANA, B7 VDD_ANA, B8 GPAIN1 (in), B9 ANA_LDOO, B10 LDOI, B11 RSV5, B12 RSV3, B13 RSV6, B14 LDOI, C1 CLKIN (in), C2 ~{INT0} (in), C3 DV_DDRTC, C4 SCL (io), C5 VSS_RTC, C6 DVDDIO, C7 VDDA_PLL, C8 VSS, C9 VSS_ANA, C10 BG_CAP (io), C11 CVDD, C12 VSS, C13 ~{DSP_LDO_EN} (in), C14 LDOI, D1 CLK_SEL (in), D2 ~{RESET} (in), D3 CVDD, D4 VSS, D5 VSS, D10 VSS, D11 CVDD, D12 VSS_OSC, D13 USB_LDOO, D14 MXO (out), E1 RSV7, E2 RSV11, E3 VSS, E4 VSS, E11 VSS, E12 VDD_1P3, E13 VDD_OSC, E14 MXI (in), F1 RSV8, F2 CVDD, F3 VSS, F12 VSS_REF, F13 VSS_PLL, F14 VDD_1P3, G1 RSV9, G2 RSV12, G3 CVDD, G12 VDD_A3P3, G13 VDD_PLL, G14 R1 (io), H1 RSV10, H2 CVDD, H3 VSS, H12 VDD_A1P3, H13 VSS_A3P3, H14 DP (io), J1 DX (io), J2 GP12 (io), J3 XF (out), J12 VSS_A1P3, J13 VSS, J14 DM (io), K1 TX (io), K2 TDI (in), K3 VSS, K4 VSS, K11 CVDD, K12 RSV1, K13 VDD_1P3, K14 VSS_1P3, L1 CS0 (io), L2 EMU0 (io), L3 CLK (out), L4 DVDDIO, L5 VSS, L10 VSS, L11 GP7 (io), L12 GP10 (io), L13 RSV2, L14 VBUS (io), M1 EMU1 (io), M2 CS1 (io), M3 DVDDIO, M4 DVDDIO, M5 CS3 (io), M6 CVDD, M7 VSS, M8 CLK (io), M9 CVDD, M10 FS (io), M11 TXD (io), M12 GP11 (io), M13 GP8 (io), M14 GP6 (io), N1 TDO (out), N2 CS2 (io), N3 TCK (in), N4 RX (io), N5 GP13 (io), N6 TMS (in), N7 GP15 (io), N8 DVDDIO, N9 CVDD, N10 GP19 (io), N11 DVDDIO, N12 RTS (io), N13 GP4 (io), N14 DVDDIO, P1 VSS, P2 GP14 (io), P3 GP16 (io), P4 ~{TRST} (in), P5 GP18 (io), P6 RX (io), P7 GP5 (io), P8 GP17 (io), P9 GP20 (io), P10 GP9 (io), P11 GP27 (io), P12 CTS (io), P13 RXD (io), P14 VSS
text: USB-signal; USART; GP28; GP29; GP30; GP31; SPI; CLOCK; I2S0; I2C; JTAG; RSV7-12 OPEN; USB-power; RSV1-2; VDD; Analog; RSV0,3-6

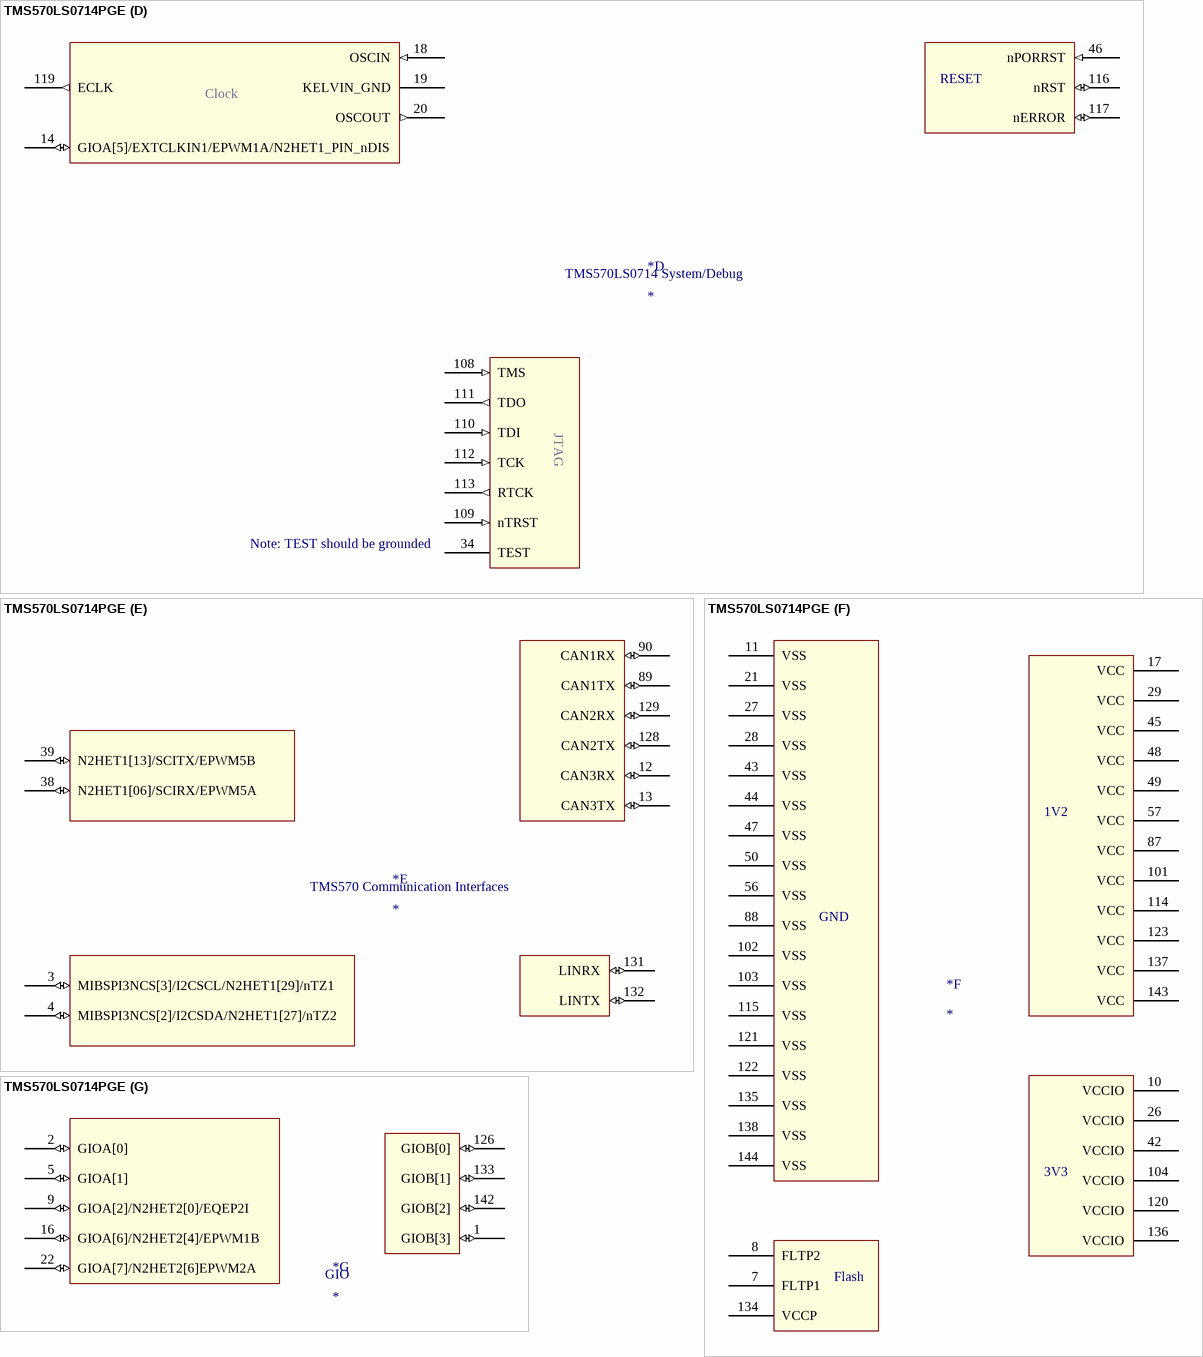
[diagram p11: symbol TMS570LS0714PGE]

## TMS570LS0714PGE
designator *
footprint PGE (S-PQFP-G144) (TSQFP, 144-Leads, Body 20.00x20.00mm, Pitch 0.50mm, IPC Medium Density)
part A pins: 58 AD1IN[16] / AD2IN[0] (in), 59 AD1IN[17] / AD2IN[01] (in), 60 AD1IN[0] (in), 61 AD1IN[7] (in), 62 AD1IN[18] / AD2IN[02] (in), 63 AD1IN[19] / AD2IN[03] (in), 64 AD1IN[20] / AD2IN[04] (in), 65 AD1IN[21] / AD2IN[05] (in), 66 ADREFHI (in), 67 ADREFLO (in), 68 VSSAD (power), 69 VCCAD (power), 70 AD1IN[09] / AD2IN[09] (in), 71 AD1IN[1] (in), 72 AD1IN[10] / AD2IN[10] (in), 73 AD1IN[2] (in), 74 AD1IN[3] (in), 75 AD1IN[11] / AD2IN[11] (in), 76 AD1IN[4] (in), 77 AD1IN[12] / AD2IN[12] (in), 78 AD1IN[5] (in), 79 AD1IN[13] / AD2IN[13] (in), 80 AD1IN[6] (in), 81 AD1IN[22] / AD2IN[06] (in), 82 AD1IN[14] / AD2IN[14] (in), 83 AD1IN[08] / AD2IN[08] (in), 84 AD1IN[23] / AD2IN[07] (in), 85 AD1IN[15] / AD2IN[15] (in), 86 AD1EVT (io)
part B pins: 15 N2HET1[22] (io), 33 N2HET1[07]/N2HET2[14]/EPWM7B (io), 35 N2HET1[09]/N2HET2[16]/EPWM7A  (io), 36 N2HET1[04]/EPWM4B (io), 92 N2HET1[26] (io), 107 N2HET1[28] (io), 118 N2HET1[10]/nTZ3 (io), 124 N2HET1[12] (io), 125 N2HET1[14] (io), 127 N2HET1[30]/EQEP2S (io), 139 N2HET1[16]/EPWM1SYNCI/EPWM1SYNCO (io), 140 N2HET1[18]/EPWM6A (io), 141 N2HET1[20]/EPWM6B (io)
part C pins: 6 N2HET1[11]/MIBSPI3NCS[4]/N2HET2[18]/EPWM1SYNCO (io), 23 N2HET1[01]/SPI4NENA//N2HET2[8] (io), 24 N2HET1[03]/SPI4NCS[0]/N2HET2[10]/EQEP2B (io), 25 N2HET1[0]/SPI4CLK/EPWM2B (io), 30 N2HET1[02]/SPI4SIMO[0]/EPWM3A (io), 31 N2HET1[05]/SPI4SOMI[0]/N2HET2[12]/EPWM3B (io), 32 MIBSPI5NCS[0]/EPWM4A (io), 37 MIBSPI3NCS[1]/N2HET1[25] (io), 40 MIBSPI1NCS[2]/N2HET1[19] (io), 41 N2HET1[15]/MIBSPI1NCS[4]/ECAP1 (io), 51 MIBSPI3SOMI[0]/AWM1_EXT_ENA/ECAP2 (io), 52 MIBSPI3SIMO[0]/AWM1_EXT_SEL[0]/ECAP3 (io), 53 MIBSPI3CLK/AWM1_EXT_SEL[1]/EQEP1A (io), 54 MIBSPI3NENA/MIBSPI3NCS[5]/N2HET1[31]/EQEP1B (io), 55 MIBSPI3NCS[0]/AD2EVT/GIOB[2]/ (io), 91 N2HET1[24]/MIBSPI1NCS[5] (io), 93 MIBSPI1SIMO[0] (io), 94 MIBSPI1SOMI[0] (io), 95 MIBSPI1CLK (io), 96 MIBSPI1NENA/N2HET1[23]/ECAP4 (io), 97 MIBSPI5NENA/MIBSPI5SOMI[1]/ECAP5 (io), 98 MIBSPI5SOMI[0] (io), 99 MIBSPI5SIMO[0]/MIBSPI5SOMI[2] (io), 100 MIBSPI5CLK (io), 105 MIBSPI1NCS[0]/MIBSPI1SOMI[1]/ECAP6 (io), 106 N2HET1[08]/MIBSPI1SIMO[1]/ (io), 130 MIBSPI1NCS[1]/N2HET1[17]//EQEP1S (io)
part D pins: 14 GIOA[5]/EXTCLKIN1/EPWM1A/N2HET1_PIN_nDIS (io), 18 OSCIN (in), 19 KELVIN_GND, 20 OSCOUT (out), 34 TEST, 46 nPORRST (in), 108 TMS (in), 109 nTRST (in), 110 TDI (in), 111 TDO (out), 112 TCK (in), 113 RTCK (out), 116 nRST (io), 117 nERROR (io), 119 ECLK (out)
part E pins: 3 MIBSPI3NCS[3]/I2CSCL/N2HET1[29]/nTZ1 (io), 4 MIBSPI3NCS[2]/I2CSDA/N2HET1[27]/nTZ2 (io), 12 CAN3RX (io), 13 CAN3TX (io), 38 N2HET1[06]/SCIRX/EPWM5A (io), 39 N2HET1[13]/SCITX/EPWM5B (io), 89 CAN1TX (io), 90 CAN1RX (io), 128 CAN2TX (io), 129 CAN2RX (io), 131 LINRX (io), 132 LINTX (io)
part F pins: 7 FLTP1 "N/C", 8 FLTP2 "N/C", 10 VCCIO (power), 11 VSS (power) "GND", 17 VCC (power), 21 VSS (power) "GND", 26 VCCIO (power), 27 VSS (power) "GND", 28 VSS (power) "GND", 29 VCC (power), 42 VCCIO (power), 43 VSS (power) "GND", 44 VSS (power) "GND", 45 VCC (power), 47 VSS (power) "GND", 48 VCC (power), 49 VCC (power), 50 VSS (power) "GND", 56 VSS (power) "GND", 57 VCC (power), 87 VCC (power), 88 VSS (power) "GND", 101 VCC (power), 102 VSS (power) "GND", 103 VSS (power) "GND", 104 VCCIO (power), 114 VCC (power), 115 VSS (power) "GND", 120 VCCIO (power), 121 VSS (power) "GND", 122 VSS (power) "GND", 123 VCC (power), 134 VCCP (power), 135 VSS (power) "GND", 136 VCCIO (power), 137 VCC (power), 138 VSS (power) "GND", 143 VCC (power), 144 VSS (power) "GND"
part G pins: 1 GIOB[3] (io), 2 GIOA[0] (io), 5 GIOA[1] (io), 9 GIOA[2]/N2HET2[0]/EQEP2I (io), 16 GIOA[6]/N2HET2[4]/EPWM1B (io), 22 GIOA[7]/N2HET2[6]EPWM2A (io), 126 GIOB[0] (io), 133 GIOB[1] (io), 142 GIOB[2] (io)
part A text: TMS570LS0714 ADC
part B text: TMS570LS0714 NHET
part C text: SPI4; MIBSPI5; TMS570LS0714 SPI; MIBSPI3; MIBSPI1; Don't use as GIO (see datasheet)
part D text: RESET; Clock; TMS570LS0714 System/Debug; JTAG; Note: TEST should be grounded
part E text: TMS570 Communication Interfaces
part F text: 1V2; GND; 3V3; Flash
part G text: GIO

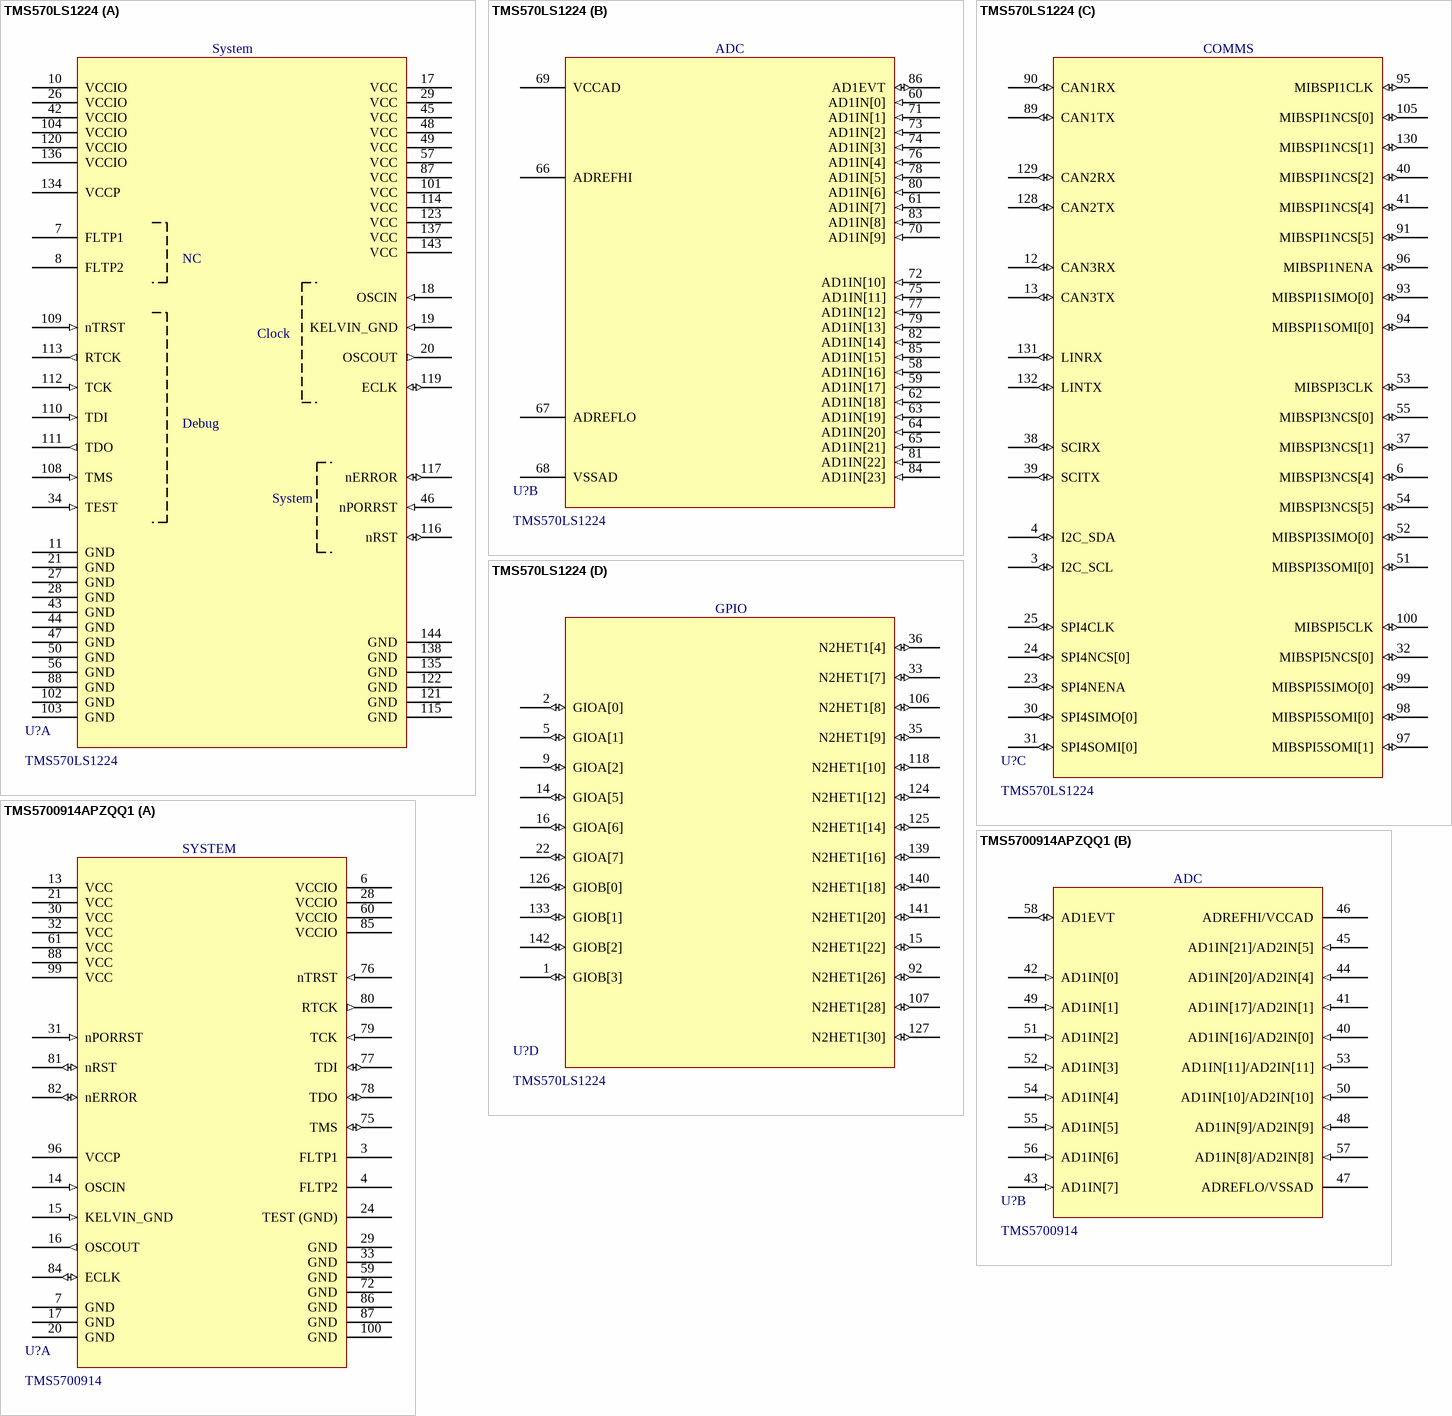
[diagram p12: symbols TMS570LS1224 to TMS5700914APZQQ1]

## TMS570LS1224
designator U?
IC MCU 32BIT 1.25MB FLASH 144QFP; Supplier 1: Digi-Key; Supplier Part Number 1: 296-47200-ND
footprint PGE (S-PQFP-G144) (TSQFP, 144-Leads, Body 20.00x20.00mm, Pitch 0.50mm, IPC Medium Density)
part A pins: 7 FLTP1 "Flash test pads. These terminals are reserved for TI use only. For proper  operation these terminals  must connect only to a  test pad or not be  connected at all [no  connect (NC)].", 8 FLTP2 "Flash test pads. These terminals are reserved for TI use only. For proper  operation these terminals  must connect only to a  test pad or not be  connected at all [no  connect (NC)].", 10 VCCIO "3V3 Power", 11 GND (power) "Ground", 17 VCC "1V2 Power", 18 OSCIN (in) "From external  crystal/resonator, or  external clock input", 19 KELVIN_GND (in) "Kelvin ground for oscillator", 20 OSCOUT (out) "To external  crystal/resonator", 21 GND (power) "Ground", 26 VCCIO "3V3 Power", 27 GND (power) "Ground", 28 GND (power) "Ground", 29 VCC "1V2 Power", 34 TEST (in) "Test enable. This terminal must be connected to  ground directly or via a  pull-down resistor.", 42 VCCIO "3V3 Power", 43 GND (power) "Ground", 44 GND (power) "Ground", 45 VCC "1V2 Power", 46 nPORRST (in) "Power-on reset, cold reset external power supply  monitor circuitry must  drive nPORRST low when  any of the supplies to the  microcontroller fall out of  the specified range. This  terminal has a glitch filter.", 47 GND (power) "Ground", 48 VCC "1V2 Power", 49 VCC "1V2 Power", 50 GND (power) "Ground", 56 GND (power) "Ground", 57 VCC "1V2 Power", 87 VCC "1V2 Power", 88 GND (power) "Ground", 101 VCC "1V2 Power", 102 GND (power) "Ground", 103 GND (power) "Ground", 104 VCCIO "3V3 Power", 108 TMS (in) "JTAG test select", 109 nTRST (in) "JTAG test hardware reset", 110 TDI (in) "JTAG test data in", 111 TDO (out) "JTAG test data out", 112 TCK (in) "JTAG test clock", 113 RTCK (out) "JTAG return test clock", 114 VCC "1V2 Power", 115 GND (power) "Ground", 116 nRST (io) "System reset, warm reset, bidirectional. The internal circuitry  indicates any reset  condition by driving nRST  low.  The external circuitry can  assert a system reset by  driving nRST low. To  ensure that an external  reset is not arbitrarily  generated, TI  recommends that an  external pull-up resistor is  connected to this terminal.  This terminal has a glitch  filter.", 117 nERROR (io) "ESM Error Signal. Indicates error of high  severity.", 119 ECLK (io) "External prescaled clock output, or GPIO.", 120 VCCIO "3V3 Power", 121 GND (power) "Ground", 122 GND (power) "Ground", 123 VCC "1V2 Power", 134 VCCP "3V3 Power", 135 GND (power) "Ground", 136 VCCIO "3V3 Power", 137 VCC "1V2 Power", 138 GND (power) "Ground", 143 VCC "1V2 Power", 144 GND (power) "Ground"
part B pins: 58 AD1IN[16] (in) "ADC1/ADC2 shared analog inputs", 59 AD1IN[17] (in) "ADC1/ADC2 shared analog inputs", 60 AD1IN[0] (in) "ADC1 analog input", 61 AD1IN[7] (in) "ADC1 analog input", 62 AD1IN[18] (in) "ADC1/ADC2 shared analog inputs", 63 AD1IN[19] (in) "ADC1/ADC2 shared analog inputs", 64 AD1IN[20] (in) "ADC1/ADC2 shared analog inputs", 65 AD1IN[21] (in) "ADC1/ADC2 shared analog inputs", 66 ADREFHI (power) "ADC high reference  supply", 67 ADREFLO (power) "ADC low reference supply", 68 VSSAD (power) "Ground", 69 VCCAD (power) "Operating supply for ADC", 70 AD1IN[9] (in) "ADC1/ADC2 shared analog inputs", 71 AD1IN[1] (in) "ADC1 analog input", 72 AD1IN[10] (in) "ADC1/ADC2 shared analog inputs", 73 AD1IN[2] (in) "ADC1 analog input", 74 AD1IN[3] (in) "ADC1 analog input", 75 AD1IN[11] (in) "ADC1/ADC2 shared analog inputs", 76 AD1IN[4] (in) "ADC1 analog input", 77 AD1IN[12] (in) "ADC1/ADC2 shared analog inputs", 78 AD1IN[5] (in) "ADC1 analog input", 79 AD1IN[13] (in) "ADC1/ADC2 shared analog inputs", 80 AD1IN[6] (in) "ADC1 analog input", 81 AD1IN[22] (in) "ADC1/ADC2 shared analog inputs", 82 AD1IN[14] (in) "ADC1/ADC2 shared analog inputs", 83 AD1IN[8] (in) "ADC1/ADC2 shared analog inputs", 84 AD1IN[23] (in) "ADC1/ADC2 shared analog inputs", 85 AD1IN[15] (in) "ADC1/ADC2 shared analog inputs", 86 AD1EVT (io) "ADC1 event trigger input, or GPIO"
part C pins: 3 I2C_SCL (io) "I2C serial clock, or GPIO", 4 I2C_SDA (io) "I2C serial data, or GPIO", 6 MIBSPI3NCS[4] (io) "MibSPI3 chip select, or GPIO", 12 CAN3RX (io) "CAN3 receive, or GPIO", 13 CAN3TX (io) "CAN3 transmit, or GPIO", 23 SPI4NENA (io) "SPI4 enable, or GPIO", 24 SPI4NCS[0] (io) "SPI4 chip select, or GPIO", 25 SPI4CLK (io) "SPI4 clock, or GPIO", 30 SPI4SIMO[0] (io) "SPI4 slave-input masteroutput,  or GPIO", 31 SPI4SOMI[0] (io) "SPI4 slave-output masterinput,  or GPIO", 32 MIBSPI5NCS[0] (io) "MibSPI5 chip select, or  GPIO", 37 MIBSPI3NCS[1] (io) "MibSPI3 chip select, or GPIO", 38 SCIRX (io) "SCI receive, or GPIO", 39 SCITX (io) "SCI transmit, or GPIO", 40 MIBSPI1NCS[2] (io) "MibSPI1 chip select, or GPIO", 41 MIBSPI1NCS[4] (io) "MibSPI1 chip select, or GPIO", 51 MIBSPI3SOMI[0] (io) "MibSPI3 slave-out masterin,  or GPIO", 52 MIBSPI3SIMO[0] (io) "MibSPI3 slave-in masterout,  or GPIO", 53 MIBSPI3CLK (io) "MibSPI3 clock, or GPIO", 54 MIBSPI3NCS[5] (io) "MibSPI3 chip select, or GPIO", 55 MIBSPI3NCS[0] (io) "MibSPI3 chip select, or GPIO", 89 CAN1TX (io) "CAN1 transmit, or GPIO", 90 CAN1RX (io) "CAN1 receive, or GPIO", 91 MIBSPI1NCS[5] (io) "MibSPI1 chip select, or GPIO", 93 MIBSPI1SIMO[0] (io) "MibSPI1 slave-in masterout, or GPIO", 94 MIBSPI1SOMI[0] (io) "MibSPI1 slave-out master-in, or GPIO", 95 MIBSPI1CLK (io) "MibSPI1 clock, or GPIO", 96 MIBSPI1NENA (io) "MibSPI1 enable, or GPIO", 97 MIBSPI5SOMI[1] (io) "MibSPI5 slave-out masterin,  or GPIO", 98 MIBSPI5SOMI[0] (io) "MibSPI5 slave-out masterin,  or GPIO", 99 MIBSPI5SIMO[0] (io) "MibSPI5 slave-in masterout,  or GPIO", 100 MIBSPI5CLK (io) "MibSPI5 clock, or GPIO", 105 MIBSPI1NCS[0] (io) "MibSPI1 chip select, or GPIO", 128 CAN2TX (io) "CAN2 transmit, or GPIO", 129 CAN2RX (io) "CAN2 receive, or GPIO", 130 MIBSPI1NCS[1] (io) "MibSPI1 chip select, or GPIO", 131 LINRX (io) "LIN receive, or GPIO", 132 LINTX (io) "LIN transmit, or GPIO"
part D pins: 1 GIOB[3] (io) "General-purpose I/O", 2 GIOA[0] (io) "General-purpose I/O", 5 GIOA[1] (io) "General-purpose I/O", 9 GIOA[2] (io) "General-purpose I/O", 14 GIOA[5] (io) "General-purpose I/O", 15 N2HET1[22] (io) "N2HET1 time input capture or output compare, or GIO.", 16 GIOA[6] (io) "General-purpose I/O", 22 GIOA[7] (io) "General-purpose I/O", 33 N2HET1[7] (io) "N2HET1 time input capture or output compare, or GIO.", 35 N2HET1[9] (io) "N2HET1 time input capture or output compare, or GIO.", 36 N2HET1[4] (io) "N2HET1 time input capture or output compare, or GIO.", 92 N2HET1[26] (io) "N2HET1 time input capture or output compare, or GIO.", 106 N2HET1[8] (io) "N2HET1 time input capture or output compare, or GIO.", 107 N2HET1[28] (io) "N2HET1 time input capture or output compare, or GIO.", 118 N2HET1[10] (io) "N2HET1 time input capture or output compare, or GIO.", 124 N2HET1[12] (io) "N2HET1 time input capture or output compare, or GIO.", 125 N2HET1[14] (io) "N2HET1 time input capture or output compare, or GIO.", 126 GIOB[0] (io) "General-purpose I/O", 127 N2HET1[30] (io) "N2HET1 time input capture or output compare, or GIO.", 133 GIOB[1] (io) "General-purpose I/O", 139 N2HET1[16] (io) "N2HET1 time input capture or output compare, or GIO.", 140 N2HET1[18] (io) "N2HET1 time input capture or output compare, or GIO.", 141 N2HET1[20] (io) "N2HET1 time input capture or output compare, or GIO.", 142 GIOB[2] (io) "General-purpose I/O"
part A text: System; NC; Clock; Debug
part B text: ADC
part C text: COMMS
part D text: GPIO

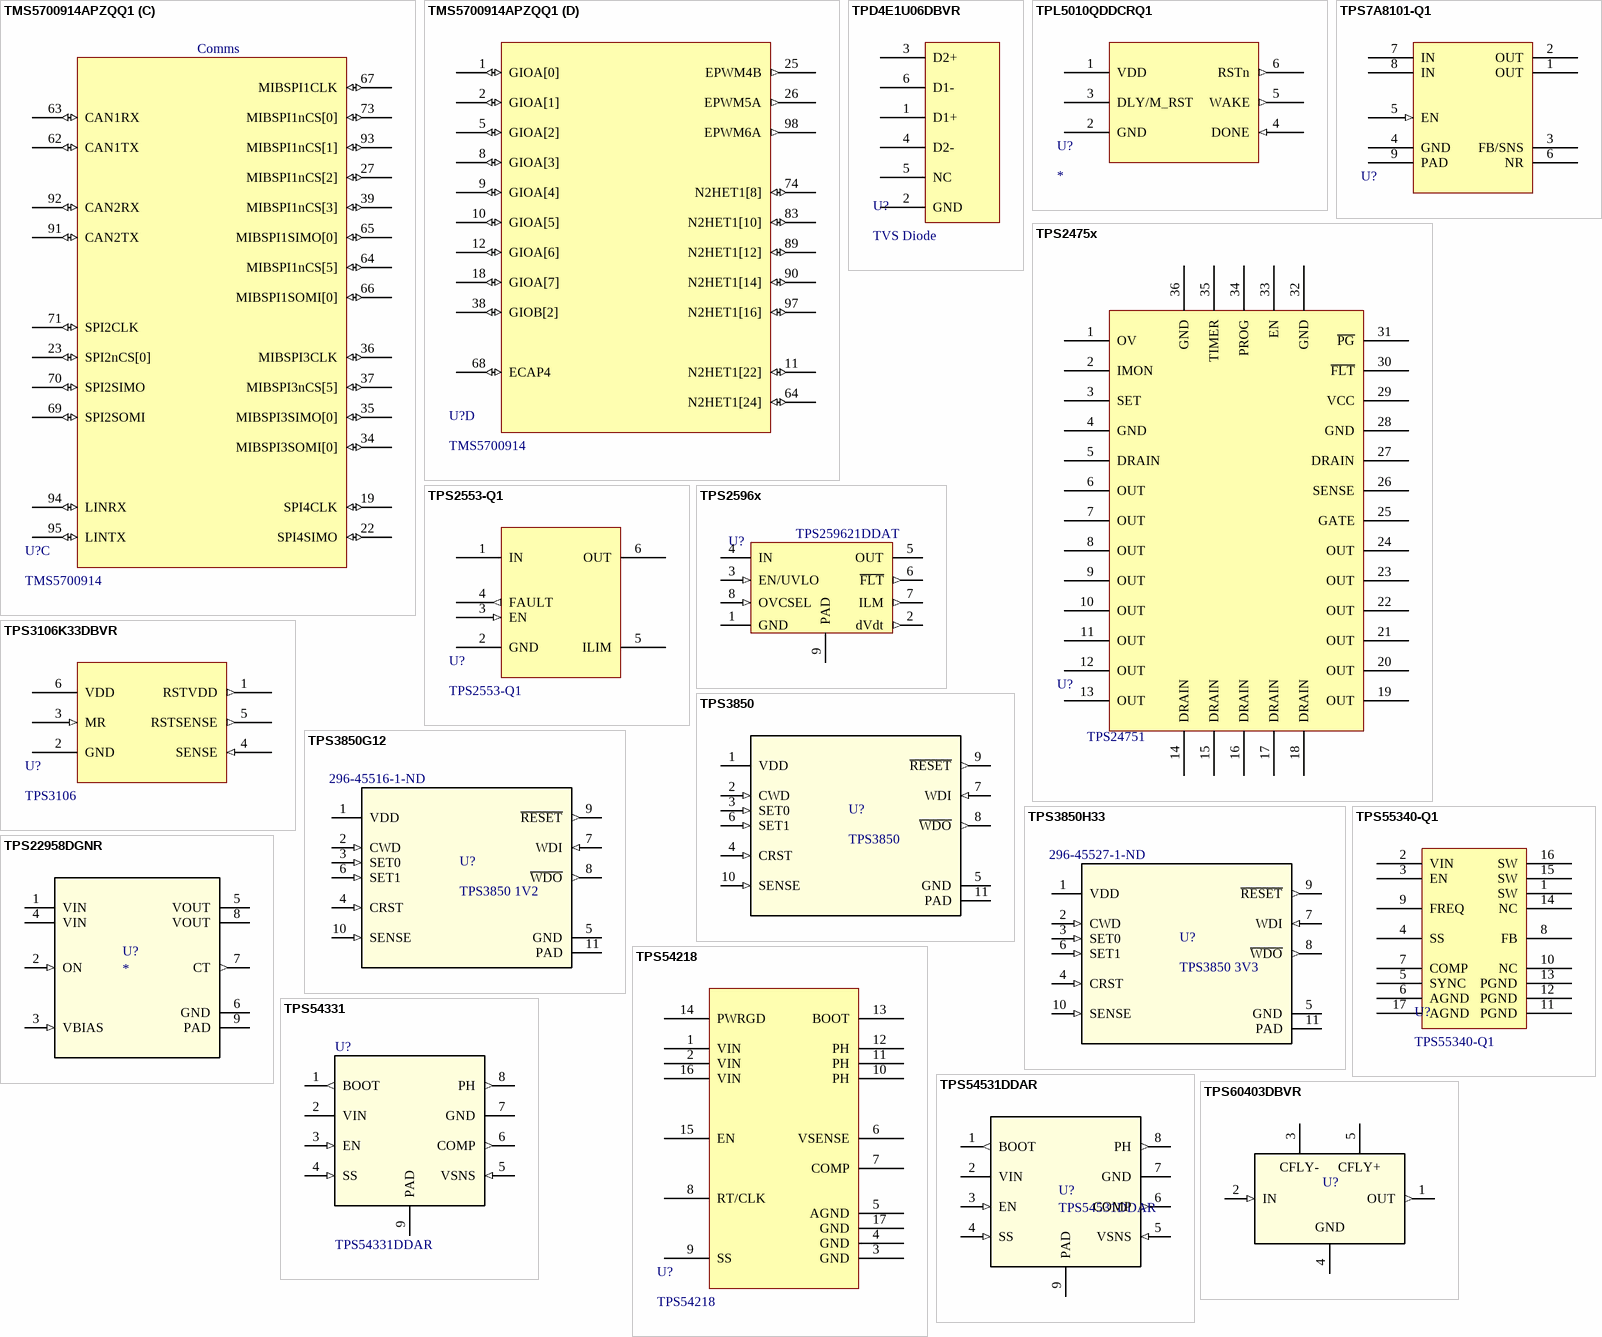
[diagram p13: symbols TMS5700914APZQQ1 to TPS60403DBVR]

## TMS5700914APZQQ1
designator U?, comment TMS5700914
IC MCU 32BIT 1MB FLASH 100LQFP; Supplier 1: Digi-Key; Supplier Part Number 1: 296-45371-ND
footprint PZ (S-PQFP-G100) (PLASTIC QUAD FLATPACK)
part A pins: 3 FLTP1 "NC", 4 FLTP2 "NC", 6 VCCIO (power) "3.3-V Power", 7 GND (power) "Ground", 13 VCC (power) "1.2-V Power", 14 OSCIN (in) "From external crystal/resonator, or external clock input", 15 KELVIN_GND (in) "Dedicated ground for oscillator", 16 OSCOUT (out) "To external crystal/resonator", 17 GND (power) "Ground", 20 GND (power) "Ground", 21 VCC (power) "1.2-V Power", 24 TEST (GND) "Test enable. This terminal must be connected to ground  directly or via a pulldown resistor.", 28 VCCIO (power) "3.3-V Power", 29 GND (power) "Ground", 30 VCC (power) "1.2-V Power", 31 nPORRST (in) "Power-on reset, cold reset External power supply  monitor circuitry must drive nPORRST low when any of  the supplies to the microcontroller fall out of the  specified range. This terminal has a glitch filter.", 32 VCC (power) "1.2-V Power", 33 GND (power) "Ground", 59 GND (power) "Ground", 60 VCCIO (power) "3.3-V Power", 61 VCC (power) "1.2-V Power", 72 GND (power) "Ground", 75 TMS (io) "JTAG test select", 76 nTRST (in) "JTAG test hardware reset", 77 TDI (io) "JTAG test data in", 78 TDO (io) "JTAG test data out", 79 TCK (in) "JTAG test clock", 80 RTCK (out) "JTAG return test clock", 81 nRST (io) "The external circuitry can assert a system reset by  driving nRST low. To ensure that an external reset is not  arbitrarily generated, TI recommends that an external  pullup resistor is connected to this terminal. This  terminal has a glitch filter.", 82 nERROR (io) "ESM Error Signal. Indicates error of high severity.", 84 ECLK (io) "External prescaled clock output, or GIO.", 85 VCCIO (power) "3.3-V Power", 86 GND (power) "Ground", 87 GND (power) "Ground", 88 VCC (power) "1.2-V Power", 96 VCCP (power) "3.3-V Power", 99 VCC (power) "1.2-V Power", 100 GND (power) "Ground"
part B pins: 40 AD1IN[16]/AD2IN[0] (in) "Analog Inputs", 41 AD1IN[17]/AD2IN[1] (in) "Analog Inputs", 42 AD1IN[0] (in) "Analog Inputs", 43 AD1IN[7] (in) "Analog Inputs", 44 AD1IN[20]/AD2IN[4] (in) "Analog Inputs", 45 AD1IN[21]/AD2IN[5] (in) "Analog Inputs", 46 ADREFHI/VCCAD (power) "ADC High Reference Level/ADC Operating  Supply", 47 ADREFLO/VSSAD (power) "ADC Low Reference Level/ADC Supply Ground", 48 AD1IN[9]/AD2IN[9] (in) "Analog Inputs", 49 AD1IN[1] (in) "Analog Inputs", 50 AD1IN[10]/AD2IN[10] (in) "Analog Inputs", 51 AD1IN[2] (in) "Analog Inputs", 52 AD1IN[3] (in) "Analog Inputs", 53 AD1IN[11]/AD2IN[11] (in) "Analog Inputs", 54 AD1IN[4] (in) "Analog Inputs", 55 AD1IN[5] (in) "Analog Inputs", 56 AD1IN[6] (in) "Analog Inputs", 57 AD1IN[8]/AD2IN[8] (in) "Analog Inputs", 58 AD1EVT (io) "ADC1 Event Trigger or GPIO"
part C pins: 19 SPI4CLK (io) "SPI4 Serial Clock", 22 SPI4SIMO (io) "SPI2 Slave-In-Master-Out", 23 SPI2nCS[0] (io) "SPI2 Chip Select", 27 MIBSPI1nCS[2] (io) "MibSPI1 Chip Select", 34 MIBSPI3SOMI[0] (io) "MibSPI3 Slave-Out-Master-In", 35 MIBSPI3SIMO[0] (io) "MibSPI3 Slave-In-Master-Out", 36 MIBSPI3CLK (io) "MibSPI3 Serial Clock", 37 MIBSPI3nCS[5] (io) "MibSPI3 Chip Select", 39 MIBSPI1nCS[3] (io) "MibSPI1 Chip Select", 62 CAN1TX (io) "CAN1 Transmit", 63 CAN1RX (io) "CAN1 Receive", 64 MIBSPI1nCS[5] (io) "MibSPI1 Chip Select", 65 MIBSPI1SIMO[0] (io) "MibSPI1 Slave-In-Master-Out", 66 MIBSPI1SOMI[0] (io) "MibSPI1 Slave-In-Master-Out", 67 MIBSPI1CLK (io) "MibSPI1 Serial Clock", 69 SPI2SOMI (io) "SPI2 Slave-Out-Master-In", 70 SPI2SIMO (io) "SPI2 Slave-In-Master-Out", 71 SPI2CLK (io) "SPI2 Serial Clock", 73 MIBSPI1nCS[0] (io) "MibSPI1 Chip Select", 91 CAN2TX  (io) "CAN2 Transmit", 92 CAN2RX (io) "CAN2 Receive", 93 MIBSPI1nCS[1] (io) "MibSPI1 Chip Select", 94 LINRX (io) "LIN Receive", 95 LINTX (io) "LIN Transmit"
part D pins: 1 GIOA[0] (io) "GPIO", 2 GIOA[1] (io) "GPIO", 5 GIOA[2] (io) "GPIO", 8 GIOA[3] (io) "GPIO", 9 GIOA[4] (io) "GPIO", 10 GIOA[5] (io) "GPIO", 11 N2HET1[22] (io) "N2HET2 timer input capture", 12 GIOA[6] (io) "GPIO", 18 GIOA[7] (io) "GPIO", 25 EPWM4B (out) "Enhanced PWM4 Output B", 26 EPWM5A (out) "Enhanced PWM5 Output A", 38 GIOB[2] (io) "GPIO", 64 N2HET1[24] (io) "N2HET2 timer input capture", 68 ECAP4 (io) "Enhanced Capture Module 4 I/O", 74 N2HET1[8] (io) "N2HET2 timer input capture", 83 N2HET1[10] (io) "N2HET2 timer input capture", 89 N2HET1[12] (io) "N2HET2 timer input capture", 90 N2HET1[14] (io) "N2HET2 timer input capture", 97 N2HET1[16] (io) "N2HET2 timer input capture", 98 EPWM6A (out) "Enhanced PWM6 Output A"
part A text: SYSTEM
part B text: ADC
part C text: Comms

## TPD4E1U06DBVR
designator U?, comment TVS Diode
TVS DIODE 5.5VWM 15VC SOT23-6; Supplier 1: Digi-Key; Supplier Part Number 1: 296-39347-1-ND
footprint DCK (R-PDSO-G6) (TSOP, 6-Leads, Body 2.00x1.25mm, Pitch 0.65mm, IPC Medium Density)
pins: 1 D1+, 2 GND, 3 D2+, 4 D2-, 5 NC, 6 D1-

## TPL5010QDDCRQ1
designator U?
IC TIMER W/WATCHDOG 6SOT; Supplier 1: Digi-Key; Supplier Part Number 1: 296-44963-1-ND
footprint DDC (R-PDSO-G6) (SOT23, 6-Leads, Body 2.90x2.80mm, Pitch 0.95mm, IPC Medium Density)
pins: 1 VDD (power), 2 GND, 3 DLY/M_RST, 4 DONE (in), 5 WAKE (out), 6 RSTn (out)

## TPS7A8101-Q1
designator U?, comment TPS7A8101QDRBRQ1  (value not drawn)
IC REG LINEAR POS ADJ 1A 8SON; Supplier 1: Digi-Key; Supplier Part Number 1: 296-40980-1-ND
footprint DRB0008A (VSON - 1 mm max height)
pins: 1 OUT (power), 2 OUT (power), 3 FB/SNS, 4 GND, 5 EN (in), 6 NR, 7 IN (power), 8 IN (power), 9 PAD

## TPS2475x
designator U?  Manufacturer Part No: TPS24751  (hidden comment: TPS2475x)
eFuse Circuit Protector with Current Monitor; Supplier 1: Digi-Key; Supplier Part Number 1: 296-46228-1-ND
footprint VQFN50P700X350X100-36N (VQFN, 36-Leads, Body 7.00x3.50mm, Pitch 0.50mm, IPC Medium Density)
pins: 1 OV, 2 IMON, 3 SET, 4 GND, 5 DRAIN, 6 OUT, 7 OUT, 8 OUT, 9 OUT, 10 OUT, 11 OUT, 12 OUT, 13 OUT, 14 DRAIN, 15 DRAIN, 16 DRAIN, 17 DRAIN, 18 DRAIN, 19 OUT, 20 OUT, 21 OUT, 22 OUT, 23 OUT, 24 OUT, 25 GATE, 26 SENSE, 27 DRAIN, 28 GND, 29 VCC, 30 ~{FLT}, 31 ~{PG}, 32 GND, 33 EN, 34 PROG, 35 TIMER, 36 GND

## TPS2553-Q1
designator U?
TPS2553QDBVRQ1; Supplier 1: Digi-Key; Supplier Part Number 1: 296-40729-1-ND
footprint DBV (R-PDSO-G6) (TSOP, 6-Leads, Body 2.90x1.60mm, Pitch 0.95mm, IPC Medium Density)
pins: 1 IN (power), 2 GND, 3 EN (in), 4 FAULT (out), 5 ILIM, 6 OUT (power)

## TPS2596x
designator U?  Manufacturer Part No: TPS259621DDAT  (hidden comment: *)
EFUSE 2.7-19V 130MA-2A SURGE CLAMPING; Supplier 1: Mouser; Supplier Part Number 1: 595-TPS259621DDAT
footprint SOIC127P600X170-9N (SOIC ,1.27mm pitch;8 pin,3.90mm W X 4.90mm L X 1.70mm H body (w/thermal tab))
pins: 1 GND, 2 dVdt (out), 3 EN/UVLO (in), 4 IN (power), 5 OUT (power), 6 ~{FLT} (out), 7 ILM (out), 8 OVCSEL (in), 9 PAD

## TPS3106K33DBVR
designator U?, comment TPS3106
IC SUPERVISORY CIRCUIT SOT-23-6; Supplier 1: Digi-Key; Supplier Part Number 1: 296-13399-1-ND
footprint DBV (R-PDSO-G6) (TSOP, 6-Leads, Body 2.90x1.60mm, Pitch 0.95mm, IPC Medium Density)
pins: 1 RSTVDD (out), 2 GND, 3 MR (in), 4 SENSE (in), 5 RSTSENSE (out), 6 VDD (power)

## TPS3850
designator U?
VOLTAGE SUPERVISOR WITH WINDOW WATCHDOG TIMER; Supplier 1: Digi-Key; Supplier 2: Digi-Key; Supplier Part Number 1: 296-45527-1-ND; Supplier Part Number 2: 296-45516-1-ND
footprint DRC0010R
pins: 1 VDD (power), 2 CWD (in), 3 SET0 (in), 4 CRST (in), 5 GND (power), 6 SET1 (in), 7 WDI (in), 8 ~{WDO} (out), 9 ~{RESET} (out), 10 SENSE (in), 11 PAD (power)

## TPS3850G12
designator U?, comment TPS3850 1V2  Supplier Part Number 1: 296-45516-1-ND
VOLTAGE SUPERVISOR WITH WINDOW WATCHDOG TIMER 1V2; Supplier 1: Digi-Key
footprint DRC0010R
pins: 1 VDD (power), 2 CWD (in), 3 SET0 (in), 4 CRST (in), 5 GND (power), 6 SET1 (in), 7 WDI (in), 8 ~{WDO} (out), 9 ~{RESET} (out), 10 SENSE (in), 11 PAD (power)

## TPS3850H33
designator U?, comment TPS3850 3V3  Supplier Part Number 1: 296-45527-1-ND
VOLTAGE SUPERVISOR WITH WINDOW WATCHDOG TIMER 3V3; Supplier 1: Digi-Key
footprint DRC0010R
pins: 1 VDD (power), 2 CWD (in), 3 SET0 (in), 4 CRST (in), 5 GND (power), 6 SET1 (in), 7 WDI (in), 8 ~{WDO} (out), 9 ~{RESET} (out), 10 SENSE (in), 11 PAD (power)

## TPS22958DGNR
designator U?
IC LOAD SWITCH 6A; PartNumber: TPS22958DGNR; Alternate_PartNumber: TPS22958DGNT; Manufacturer: Texas Instruments; PIN_COUNT: 9; PackageReference: DGN0008D; MountType: SMT; CompType: IC; RoHS: Y; RefDes: RefDes; TYPE: TYPE; Value: Value
footprint DGN (S-PDSO-G8)
pins: 1 VIN (power), 2 ON (in), 3 VBIAS (in), 4 VIN (power), 5 VOUT (power), 6 GND (power), 7 CT (out), 8 VOUT (power), 9 PAD (power)

## TPS54218
designator U?
IC REG BUCK ADJ 2A SYNC 16QFN; Supplier 1: Digi-Key; Supplier Part Number 1: 296-32491-1-ND
footprint RTE (S-PWQFN-N16) (PQFN, 16-Leads, Body 3.00x3.00mm, Pitch 0.50mm, Thermal Pad 1.65x1.65mm, IPC Low Density)
pins: 1 VIN, 2 VIN, 3 GND, 4 GND, 5 AGND, 6 VSENSE, 7 COMP, 8 RT/CLK, 9 SS, 10 PH, 11 PH, 12 PH, 13 BOOT, 14 PWRGD, 15 EN, 16 VIN, 17 GND

## TPS54331
designator U?, comment TPS54331DDAR
Step-Down 28Vin 3A 570kHz SOIC-8_EP_150mil DC-DC Converters RoHS; Supplier 1: Digi-Key; Supplier 2: Mouser; Supplier 3: LCSC; Supplier Part Number 1: 296-39419-1-ND; Supplier Part Number 2: 595-TPS54331DDAR; Supplier Part Number 3: C90761
footprint DDA (R-PDSO-G8) - TPS54331 (TPS54331 SOIC-8, PowerPAD)
pins: 1 BOOT (out), 2 VIN (power), 3 EN (in), 4 SS (in), 5 VSNS (in), 6 COMP (out), 7 GND (power), 8 PH (out), 9 PAD (power)